# Altium integrated library Xilinx CoolRunner II.IntLib: 198 symbols (part 4 of 13)
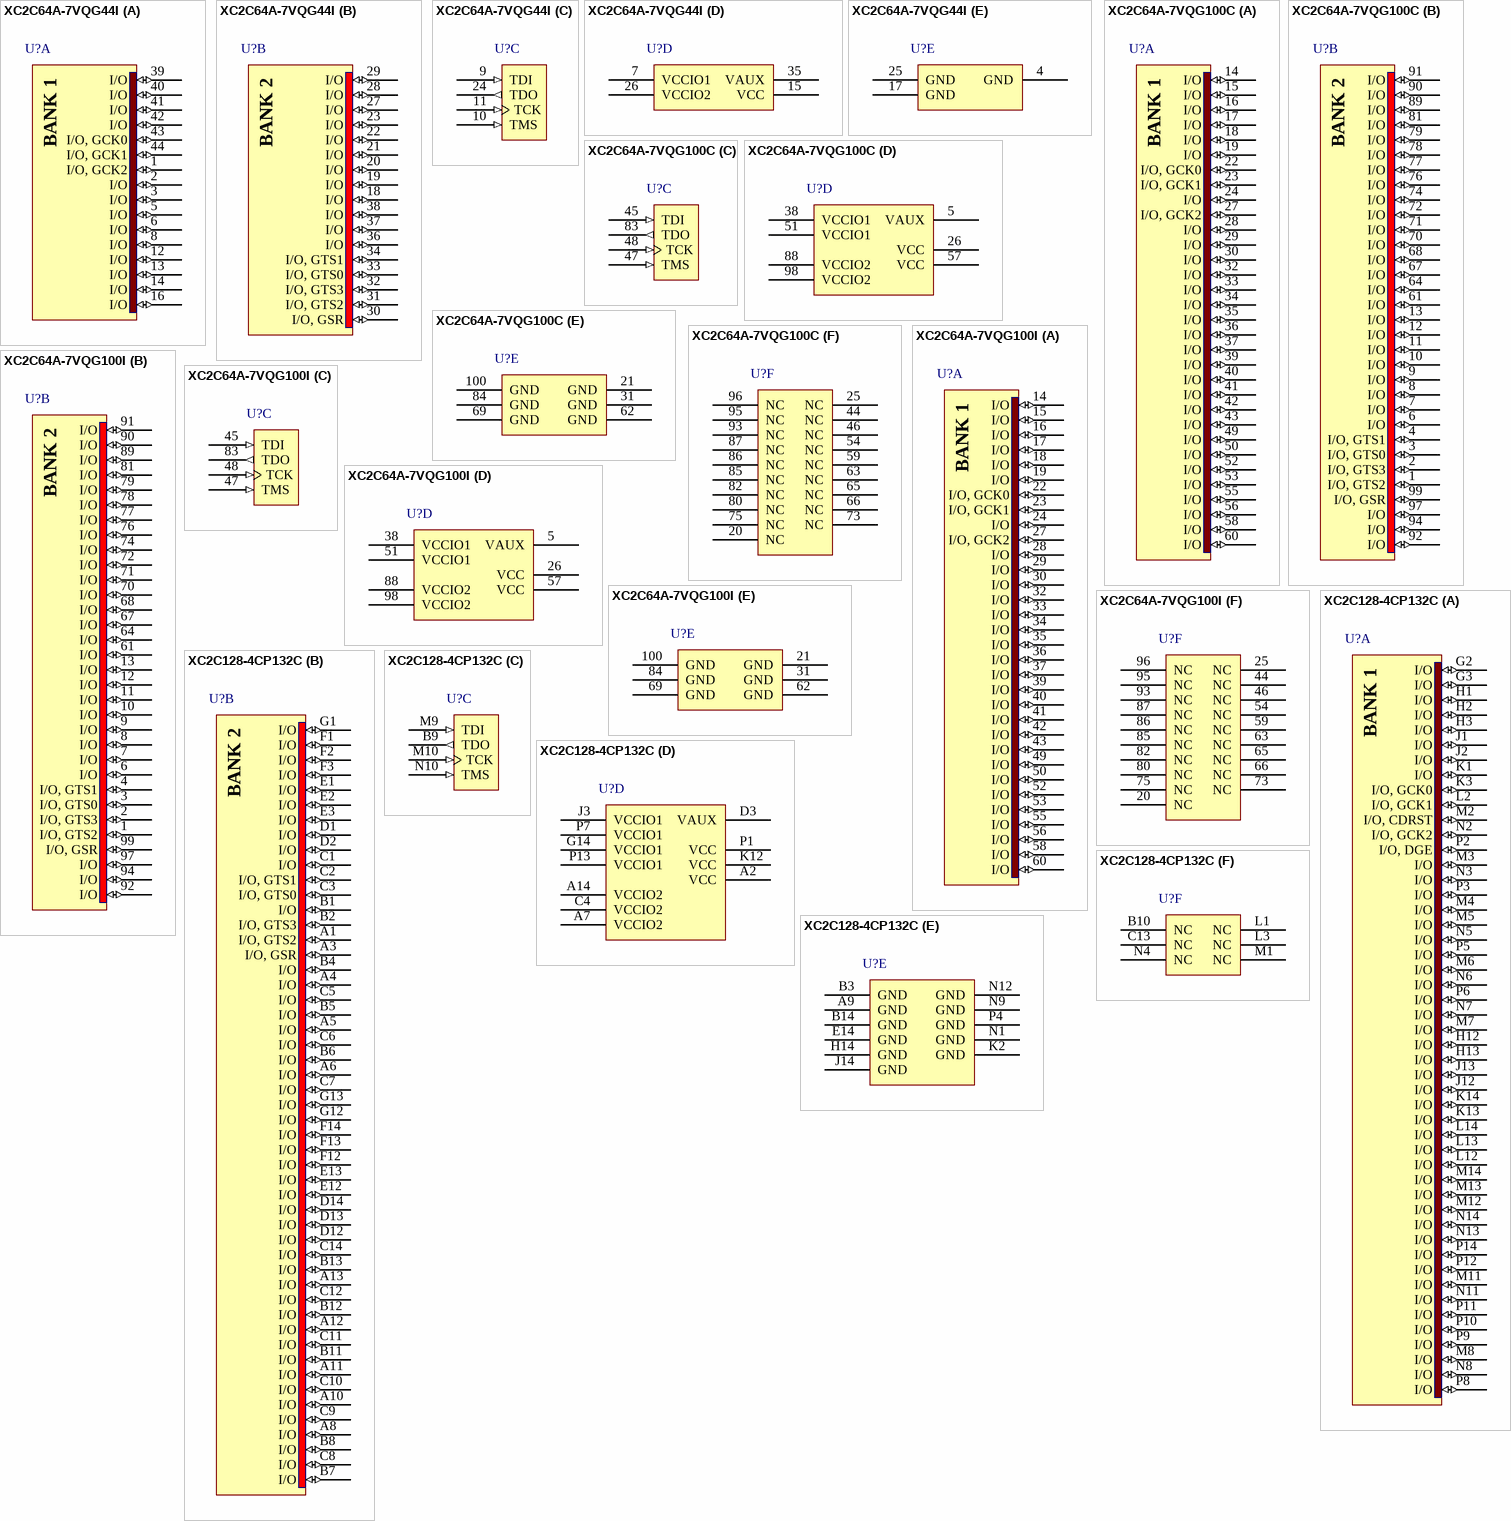
[diagram p72: symbols XC2C64A-7VQG44I to XC2C128-4CP132C]

## XC2C128-4CP132C
designator U?
CoolRunner-II, 1.8V, 128 Macrocell CPLD, 132-Ball CSP, Commercial Grade; ComponentAvailability: Not referenced in latest datasheet.; Published: 23-Sep-2002; LatestRevisionDate: 13-Apr-2006; LatestRevisionNote: IPC-7351 Footprint Added.; DatasheetVersion: ver2.5, Oct-2004; PackageVersion: ver1.2, Jun-2004; PackageReference: CP132; Publisher: Altium Limited; PackageDescription: 132-Ball Chip Scale Ball Grid Array 0.5 mm Pitch (CP132); ComponentLink1Description: Manufacturer Link; ComponentLink1URL: http://www.xilinx.com/products/silicon_solutions/cplds/coolrunner_series/coolrunner_ii_cplds/overview.htm; ComponentLink2Description: Datasheet; ComponentLink2URL: http://direct.xilinx.com/bvdocs/publications/ds093.pdf
footprint CP132 (BGA, 132-Leads, Body 8x8mm, Pitch 0.5mm)
3D model XC2C128-CP132 (132-Ball Chip Scale Ball Grid Array 0.5 mm Pitch (CP132))
signal-integrity model XC2C128_CP132 (CoolRunner-II)
part A pins: G2 I/O (io), G3 I/O (io), H1 I/O (io), H2 I/O (io), H3 I/O (io), H12 I/O (io), H13 I/O (io), J1 I/O (io), J2 I/O (io), J12 I/O (io), J13 I/O (io), K1 I/O (io), K3 I/O, GCK0 (io), K13 I/O (io), K14 I/O (io), L2 I/O, GCK1 (io), L12 I/O (io), L13 I/O (io), L14 I/O (io), M2 I/O, CDRST (io), M3 I/O (io), M4 I/O (io), M5 I/O (io), M6 I/O (io), M7 I/O (io), M8 I/O (io), M11 I/O (io), M12 I/O (io), M13 I/O (io), M14 I/O (io), N2 I/O, GCK2 (io), N3 I/O (io), N5 I/O (io), N6 I/O (io), N7 I/O (io), N8 I/O (io), N11 I/O (io), N13 I/O (io), N14 I/O (io), P2 I/O, DGE (io), P3 I/O (io), P5 I/O (io), P6 I/O (io), P8 I/O (io), P9 I/O (io), P10 I/O (io), P11 I/O (io), P12 I/O (io), P14 I/O (io)
part B pins: A1 I/O, GTS2 (io), A3 I/O, GSR (io), A4 I/O (io), A5 I/O (io), A6 I/O (io), A8 I/O (io), A10 I/O (io), A11 I/O (io), A12 I/O (io), A13 I/O (io), B1 I/O (io), B2 I/O, GTS3 (io), B4 I/O (io), B5 I/O (io), B6 I/O (io), B7 I/O (io), B8 I/O (io), B11 I/O (io), B12 I/O (io), B13 I/O (io), C1 I/O (io), C2 I/O, GTS1 (io), C3 I/O, GTS0 (io), C5 I/O (io), C6 I/O (io), C7 I/O (io), C8 I/O (io), C9 I/O (io), C10 I/O (io), C11 I/O (io), C12 I/O (io), C14 I/O (io), D1 I/O (io), D2 I/O (io), D12 I/O (io), D13 I/O (io), D14 I/O (io), E1 I/O (io), E2 I/O (io), E3 I/O (io), E12 I/O (io), E13 I/O (io), F1 I/O (io), F2 I/O (io), F3 I/O (io), F12 I/O (io), F13 I/O (io), F14 I/O (io), G1 I/O (io), G12 I/O (io), G13 I/O (io)
part C pins: B9 TDO (out), M9 TDI (in), M10 TCK (in), N10 TMS (in)
part D pins: A2 VCC (power), A7 VCCIO2 (power), A14 VCCIO2 (power), C4 VCCIO2 (power), D3 VAUX (power), G14 VCCIO1 (power), J3 VCCIO1 (power), K12 VCC (power), P1 VCC (power), P7 VCCIO1 (power), P13 VCCIO1 (power)
part E pins: A9 GND (power), B3 GND (power), B14 GND (power), E14 GND (power), H14 GND (power), J14 GND (power), K2 GND (power), N1 GND (power), N9 GND (power), N12 GND (power), P4 GND (power)
part F pins: B10 NC, C13 NC, L1 NC, L3 NC, M1 NC, N4 NC
part A text: BANK 1
part B text: BANK 2

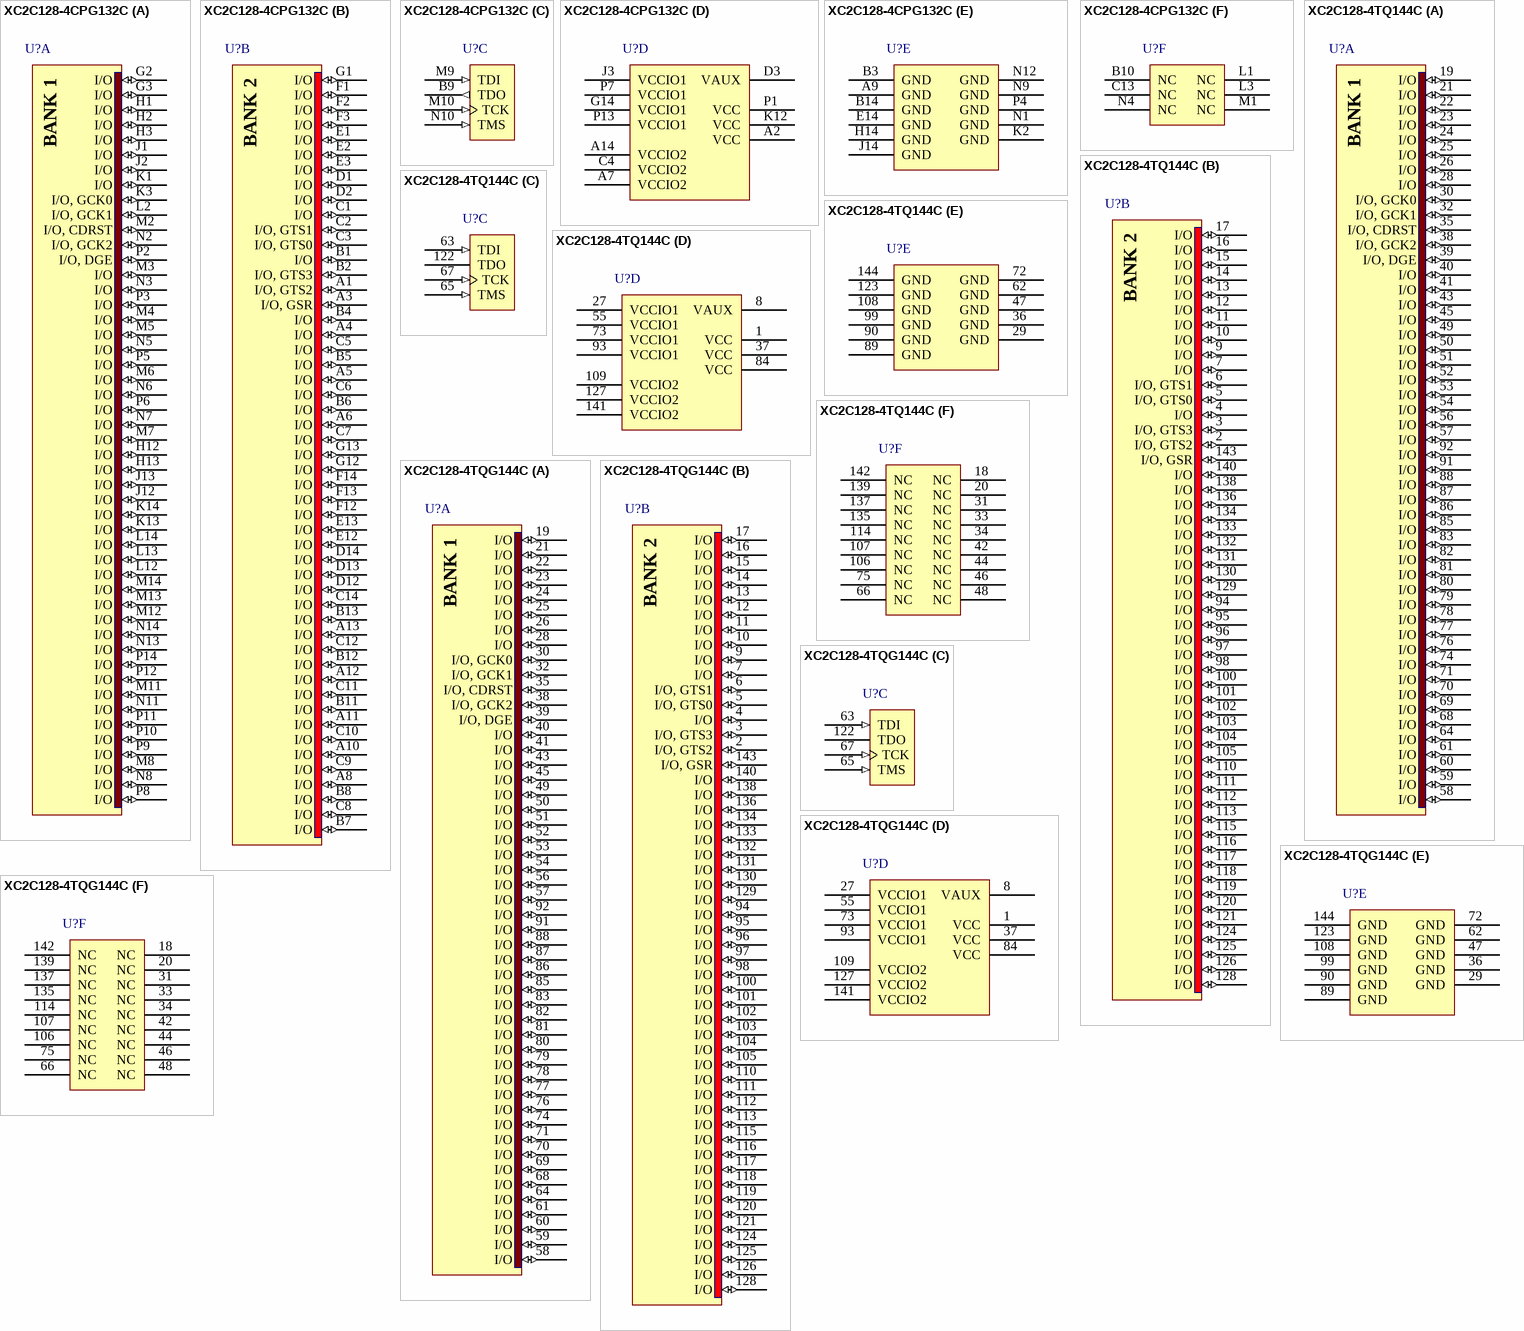
[diagram p12: symbols XC2C128-4CPG132C to XC2C128-4TQG144C]

## XC2C128-4CPG132C
designator U?
CoolRunner-II, 1.8V, 128 Macrocell CPLD, 132-Ball CSP, Pb-Free, Commercial Grade; ComponentAvailability: Not referenced in latest datasheet.; Published: 4-Mar-2005; LatestRevisionDate: 13-Apr-2006; LatestRevisionNote: IPC-7351 Footprint Added.; DatasheetVersion: ver2.5, Oct-2004; PackageVersion: ver1.2, Jun-2004; PackageReference: CPG132; Publisher: Altium Limited; PackageDescription: 132-Ball Chip Scale Ball Grid Array 0.5 mm Pitch (CPG132) - Pb-Free; ComponentLink1Description: Manufacturer Link; ComponentLink1URL: http://www.xilinx.com/products/silicon_solutions/cplds/coolrunner_series/coolrunner_ii_cplds/overview.htm; ComponentLink2Description: Datasheet; ComponentLink2URL: http://direct.xilinx.com/bvdocs/publications/ds093.pdf
footprint CPG132 (BGA, 132-Leads, Body 8x8mm, Pitch 0.5mm)
3D model XC2C128-CP132 (132-Ball Chip Scale Ball Grid Array 0.5 mm Pitch (CPG132) - Pb-Free)
signal-integrity model XC2C128_CP132 (CoolRunner-II)
part A pins: G2 I/O (io), G3 I/O (io), H1 I/O (io), H2 I/O (io), H3 I/O (io), H12 I/O (io), H13 I/O (io), J1 I/O (io), J2 I/O (io), J12 I/O (io), J13 I/O (io), K1 I/O (io), K3 I/O, GCK0 (io), K13 I/O (io), K14 I/O (io), L2 I/O, GCK1 (io), L12 I/O (io), L13 I/O (io), L14 I/O (io), M2 I/O, CDRST (io), M3 I/O (io), M4 I/O (io), M5 I/O (io), M6 I/O (io), M7 I/O (io), M8 I/O (io), M11 I/O (io), M12 I/O (io), M13 I/O (io), M14 I/O (io), N2 I/O, GCK2 (io), N3 I/O (io), N5 I/O (io), N6 I/O (io), N7 I/O (io), N8 I/O (io), N11 I/O (io), N13 I/O (io), N14 I/O (io), P2 I/O, DGE (io), P3 I/O (io), P5 I/O (io), P6 I/O (io), P8 I/O (io), P9 I/O (io), P10 I/O (io), P11 I/O (io), P12 I/O (io), P14 I/O (io)
part B pins: A1 I/O, GTS2 (io), A3 I/O, GSR (io), A4 I/O (io), A5 I/O (io), A6 I/O (io), A8 I/O (io), A10 I/O (io), A11 I/O (io), A12 I/O (io), A13 I/O (io), B1 I/O (io), B2 I/O, GTS3 (io), B4 I/O (io), B5 I/O (io), B6 I/O (io), B7 I/O (io), B8 I/O (io), B11 I/O (io), B12 I/O (io), B13 I/O (io), C1 I/O (io), C2 I/O, GTS1 (io), C3 I/O, GTS0 (io), C5 I/O (io), C6 I/O (io), C7 I/O (io), C8 I/O (io), C9 I/O (io), C10 I/O (io), C11 I/O (io), C12 I/O (io), C14 I/O (io), D1 I/O (io), D2 I/O (io), D12 I/O (io), D13 I/O (io), D14 I/O (io), E1 I/O (io), E2 I/O (io), E3 I/O (io), E12 I/O (io), E13 I/O (io), F1 I/O (io), F2 I/O (io), F3 I/O (io), F12 I/O (io), F13 I/O (io), F14 I/O (io), G1 I/O (io), G12 I/O (io), G13 I/O (io)
part C pins: B9 TDO (out), M9 TDI (in), M10 TCK (in), N10 TMS (in)
part D pins: A2 VCC (power), A7 VCCIO2 (power), A14 VCCIO2 (power), C4 VCCIO2 (power), D3 VAUX (power), G14 VCCIO1 (power), J3 VCCIO1 (power), K12 VCC (power), P1 VCC (power), P7 VCCIO1 (power), P13 VCCIO1 (power)
part E pins: A9 GND (power), B3 GND (power), B14 GND (power), E14 GND (power), H14 GND (power), J14 GND (power), K2 GND (power), N1 GND (power), N9 GND (power), N12 GND (power), P4 GND (power)
part F pins: B10 NC, C13 NC, L1 NC, L3 NC, M1 NC, N4 NC
part A text: BANK 1
part B text: BANK 2

## XC2C128-4TQ144C
designator U?
CoolRunner-II, 1.8V, 128 Macrocell CPLD, 144-Pin TQFP, Commercial Grade; ComponentAvailability: Not referenced in latest datasheet.; Published: 23-Sep-2002; LatestRevisionDate: 13-Apr-2006; LatestRevisionNote: IPC-7351 Footprint Added.; DatasheetVersion: ver2.5, Oct-2004; PackageVersion: ver1.2, Jun-2004; PackageReference: TQ144; Publisher: Altium Limited; PackageDescription: 144-Pin Thin Quad Flat Pack (TQ144); Code_JEDEC: MS-026-BFB; ComponentLink1Description: Manufacturer Link; ComponentLink1URL: http://www.xilinx.com/products/silicon_solutions/cplds/coolrunner_series/coolrunner_ii_cplds/overview.htm; ComponentLink2Description: Datasheet; ComponentLink2URL: http://direct.xilinx.com/bvdocs/publications/ds093.pdf
footprint TQ144_N (Thin QFP, 144-Leads, Body 20x20mm, Pitch 0.5mm, IPC Medium Density)
footprint TQ144_L (Thin QFP, 144-Leads, Body 20x20mm, Pitch 0.5mm, IPC High Density)
footprint TQ144_M (Thin QFP, 144-Leads, Body 20x20mm, Pitch 0.5mm, IPC Low Density)
3D model XC2C128-TQ144 (144-Pin Thin Quad Flat Pack (TQ144))
signal-integrity model XC2C128_TQ144 (CoolRunner-II)
part A pins: 19 I/O (io), 21 I/O (io), 22 I/O (io), 23 I/O (io), 24 I/O (io), 25 I/O (io), 26 I/O (io), 28 I/O (io), 30 I/O, GCK0 (io), 32 I/O, GCK1 (io), 35 I/O, CDRST (io), 38 I/O, GCK2 (io), 39 I/O, DGE (io), 40 I/O (io), 41 I/O (io), 43 I/O (io), 45 I/O (io), 49 I/O (io), 50 I/O (io), 51 I/O (io), 52 I/O (io), 53 I/O (io), 54 I/O (io), 56 I/O (io), 57 I/O (io), 58 I/O (io), 59 I/O (io), 60 I/O (io), 61 I/O (io), 64 I/O (io), 68 I/O (io), 69 I/O (io), 70 I/O (io), 71 I/O (io), 74 I/O (io), 76 I/O (io), 77 I/O (io), 78 I/O (io), 79 I/O (io), 80 I/O (io), 81 I/O (io), 82 I/O (io), 83 I/O (io), 85 I/O (io), 86 I/O (io), 87 I/O (io), 88 I/O (io), 91 I/O (io), 92 I/O (io)
part B pins: 2 I/O, GTS2 (io), 3 I/O, GTS3 (io), 4 I/O (io), 5 I/O, GTS0 (io), 6 I/O, GTS1 (io), 7 I/O (io), 9 I/O (io), 10 I/O (io), 11 I/O (io), 12 I/O (io), 13 I/O (io), 14 I/O (io), 15 I/O (io), 16 I/O (io), 17 I/O (io), 94 I/O (io), 95 I/O (io), 96 I/O (io), 97 I/O (io), 98 I/O (io), 100 I/O (io), 101 I/O (io), 102 I/O (io), 103 I/O (io), 104 I/O (io), 105 I/O (io), 110 I/O (io), 111 I/O (io), 112 I/O (io), 113 I/O (io), 115 I/O (io), 116 I/O (io), 117 I/O (io), 118 I/O (io), 119 I/O (io), 120 I/O (io), 121 I/O (io), 124 I/O (io), 125 I/O (io), 126 I/O (io), 128 I/O (io), 129 I/O (io), 130 I/O (io), 131 I/O (io), 132 I/O (io), 133 I/O (io), 134 I/O (io), 136 I/O (io), 138 I/O (io), 140 I/O (io), 143 I/O, GSR (io)
part C pins: 63 TDI (in), 65 TMS (in), 67 TCK (in), 122 TDO
part D pins: 1 VCC (power), 8 VAUX (power), 27 VCCIO1 (power), 37 VCC (power), 55 VCCIO1 (power), 73 VCCIO1 (power), 84 VCC (power), 93 VCCIO1 (power), 109 VCCIO2 (power), 127 VCCIO2 (power), 141 VCCIO2 (power)
part E pins: 29 GND (power), 36 GND (power), 47 GND (power), 62 GND (power), 72 GND (power), 89 GND (power), 90 GND (power), 99 GND (power), 108 GND (power), 123 GND (power), 144 GND (power)
part F pins: 18 NC, 20 NC, 31 NC, 33 NC, 34 NC, 42 NC, 44 NC, 46 NC, 48 NC, 66 NC, 75 NC, 106 NC, 107 NC, 114 NC, 135 NC, 137 NC, 139 NC, 142 NC
part A text: BANK 1
part B text: BANK 2

## XC2C128-4TQG144C
designator U?
CoolRunner-II, 1.8V, 128 Macrocell CPLD, 144-Pin TQFP, Pb-Free, Commercial Grade; ComponentAvailability: Not referenced in latest datasheet.; Published: 4-Mar-2005; LatestRevisionDate: 13-Apr-2006; LatestRevisionNote: IPC-7351 Footprint Added.; DatasheetVersion: ver2.5, Oct-2004; PackageVersion: ver1.2, Jun-2004; PackageReference: TQG144; Publisher: Altium Limited; PackageDescription: 144-Pin Thin Quad Flat Pack (TQG144) - Pb-Free; Code_JEDEC: MS-026-BFB; ComponentLink1Description: Manufacturer Link; ComponentLink1URL: http://www.xilinx.com/products/silicon_solutions/cplds/coolrunner_series/coolrunner_ii_cplds/overview.htm; ComponentLink2Description: Datasheet; ComponentLink2URL: http://direct.xilinx.com/bvdocs/publications/ds093.pdf
footprint TQG144_N (Thin QFP, 144-Leads, Body 20x20mm, Pitch 0.5mm, IPC Medium Density)
footprint TQG144_L (Thin QFP, 144-Leads, Body 20x20mm, Pitch 0.5mm, IPC High Density)
footprint TQG144_M (Thin QFP, 144-Leads, Body 20x20mm, Pitch 0.5mm, IPC Low Density)
3D model XC2C128-TQ144 (144-Pin Thin Quad Flat Pack (TQG144) - Pb-Free)
signal-integrity model XC2C128_TQ144 (CoolRunner-II)
part A pins: 19 I/O (io), 21 I/O (io), 22 I/O (io), 23 I/O (io), 24 I/O (io), 25 I/O (io), 26 I/O (io), 28 I/O (io), 30 I/O, GCK0 (io), 32 I/O, GCK1 (io), 35 I/O, CDRST (io), 38 I/O, GCK2 (io), 39 I/O, DGE (io), 40 I/O (io), 41 I/O (io), 43 I/O (io), 45 I/O (io), 49 I/O (io), 50 I/O (io), 51 I/O (io), 52 I/O (io), 53 I/O (io), 54 I/O (io), 56 I/O (io), 57 I/O (io), 58 I/O (io), 59 I/O (io), 60 I/O (io), 61 I/O (io), 64 I/O (io), 68 I/O (io), 69 I/O (io), 70 I/O (io), 71 I/O (io), 74 I/O (io), 76 I/O (io), 77 I/O (io), 78 I/O (io), 79 I/O (io), 80 I/O (io), 81 I/O (io), 82 I/O (io), 83 I/O (io), 85 I/O (io), 86 I/O (io), 87 I/O (io), 88 I/O (io), 91 I/O (io), 92 I/O (io)
part B pins: 2 I/O, GTS2 (io), 3 I/O, GTS3 (io), 4 I/O (io), 5 I/O, GTS0 (io), 6 I/O, GTS1 (io), 7 I/O (io), 9 I/O (io), 10 I/O (io), 11 I/O (io), 12 I/O (io), 13 I/O (io), 14 I/O (io), 15 I/O (io), 16 I/O (io), 17 I/O (io), 94 I/O (io), 95 I/O (io), 96 I/O (io), 97 I/O (io), 98 I/O (io), 100 I/O (io), 101 I/O (io), 102 I/O (io), 103 I/O (io), 104 I/O (io), 105 I/O (io), 110 I/O (io), 111 I/O (io), 112 I/O (io), 113 I/O (io), 115 I/O (io), 116 I/O (io), 117 I/O (io), 118 I/O (io), 119 I/O (io), 120 I/O (io), 121 I/O (io), 124 I/O (io), 125 I/O (io), 126 I/O (io), 128 I/O (io), 129 I/O (io), 130 I/O (io), 131 I/O (io), 132 I/O (io), 133 I/O (io), 134 I/O (io), 136 I/O (io), 138 I/O (io), 140 I/O (io), 143 I/O, GSR (io)
part C pins: 63 TDI (in), 65 TMS (in), 67 TCK (in), 122 TDO
part D pins: 1 VCC (power), 8 VAUX (power), 27 VCCIO1 (power), 37 VCC (power), 55 VCCIO1 (power), 73 VCCIO1 (power), 84 VCC (power), 93 VCCIO1 (power), 109 VCCIO2 (power), 127 VCCIO2 (power), 141 VCCIO2 (power)
part E pins: 29 GND (power), 36 GND (power), 47 GND (power), 62 GND (power), 72 GND (power), 89 GND (power), 90 GND (power), 99 GND (power), 108 GND (power), 123 GND (power), 144 GND (power)
part F pins: 18 NC, 20 NC, 31 NC, 33 NC, 34 NC, 42 NC, 44 NC, 46 NC, 48 NC, 66 NC, 75 NC, 106 NC, 107 NC, 114 NC, 135 NC, 137 NC, 139 NC, 142 NC
part A text: BANK 1
part B text: BANK 2

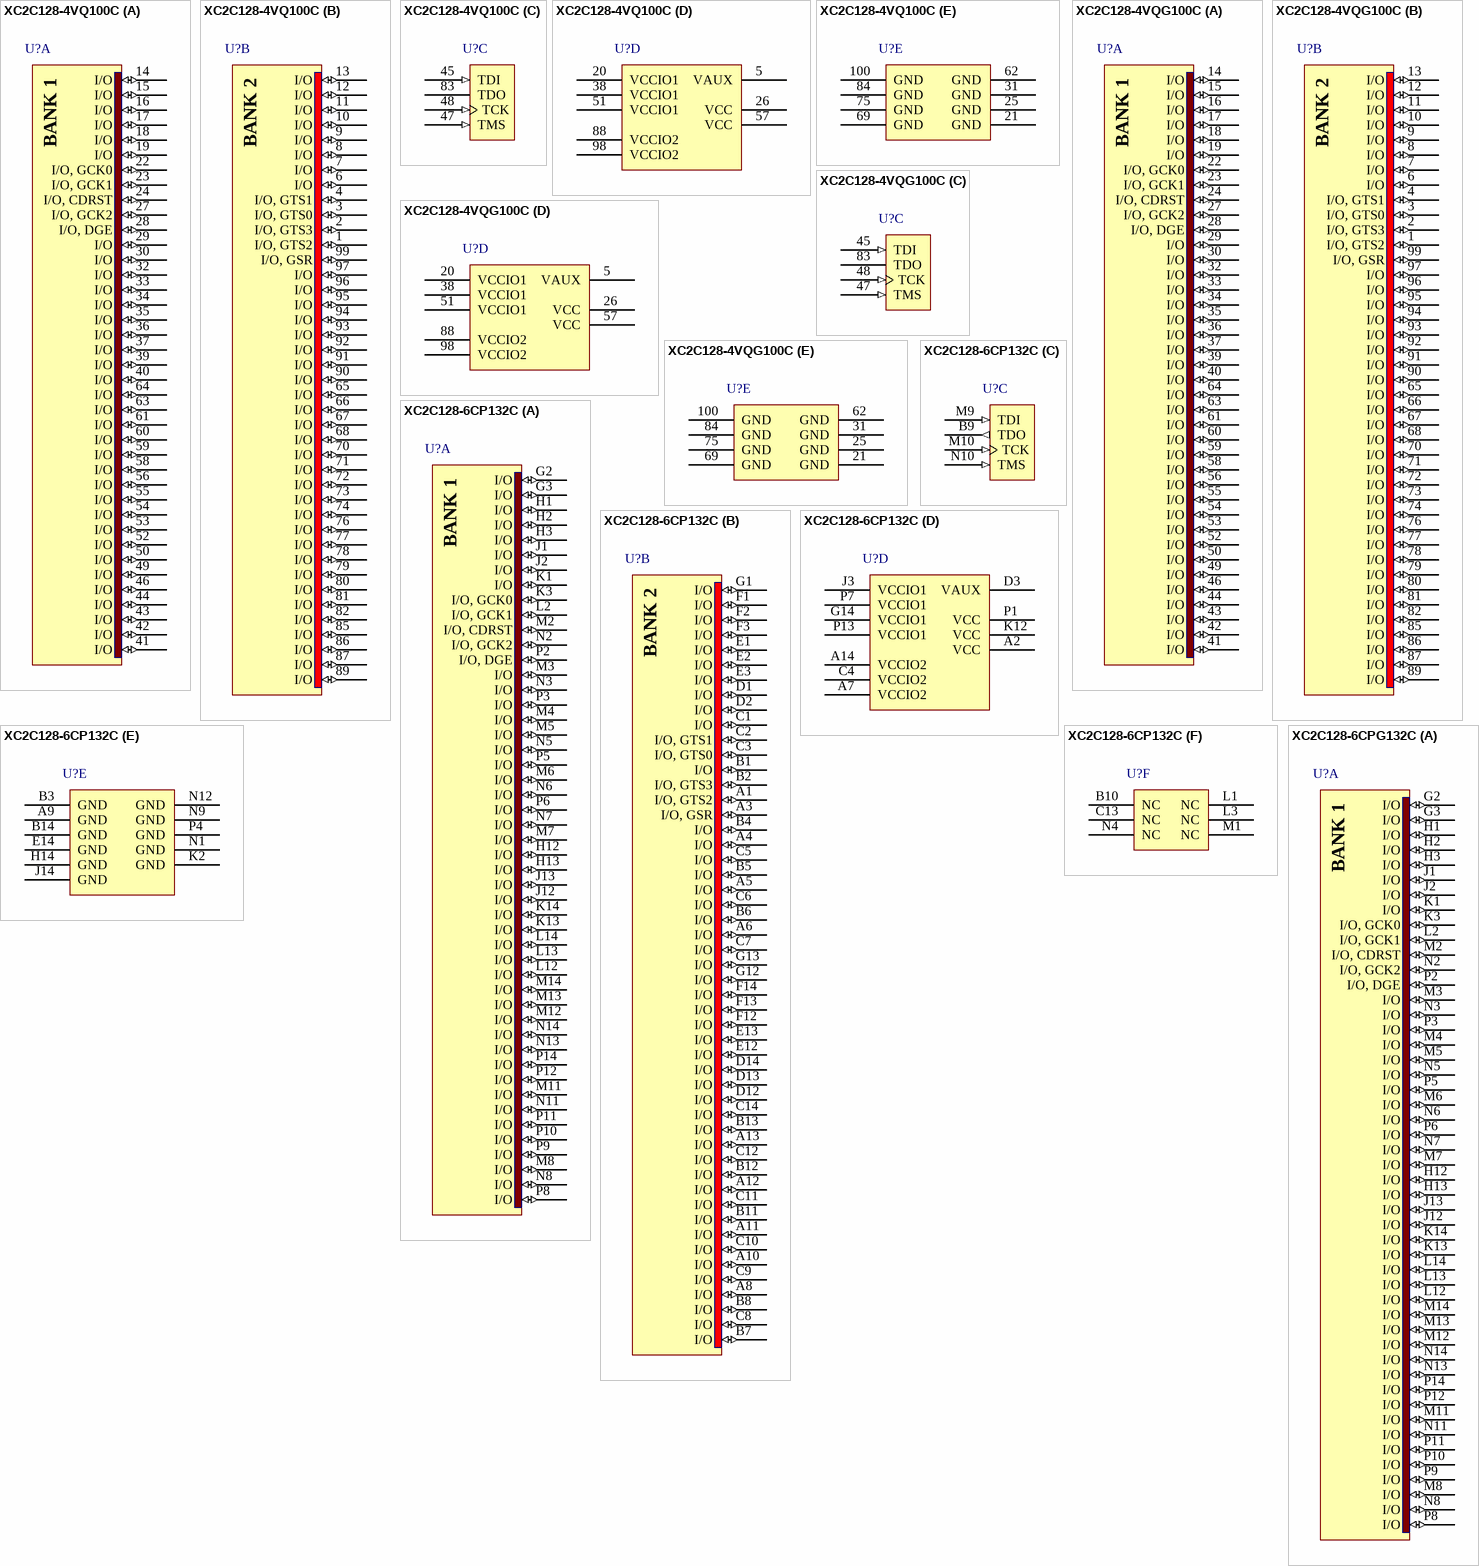
[diagram p13: symbols XC2C128-4VQ100C to XC2C128-6CPG132C]

## XC2C128-4VQ100C
designator U?
CoolRunner-II, 1.8V, 128 Macrocell CPLD, 100-Pin VQFP, Commercial Grade; ComponentAvailability: Not referenced in latest datasheet.; Published: 23-Sep-2002; LatestRevisionDate: 13-Apr-2006; LatestRevisionNote: IPC-7351 Footprint Added.; DatasheetVersion: ver2.5, Oct-2004; PackageVersion: ver1.2.1, Feb-2007; PackageReference: VQ100; Publisher: Altium Limited; PackageDescription: 100-Pin Very Thin Quad Flat Pack (VQ100); Code_JEDEC: MS-026-AED; ComponentLink1Description: Manufacturer Link; ComponentLink1URL: http://www.xilinx.com/products/silicon_solutions/cplds/coolrunner_series/coolrunner_ii_cplds/overview.htm; ComponentLink2Description: Datasheet; ComponentLink2URL: http://direct.xilinx.com/bvdocs/publications/ds093.pdf
footprint VQ100_N (Thin QFP, 100-Leads, Body 14x14mm, Pitch 0.5mm, IPC Medium Density)
footprint VQ100_L (Thin QFP, 100-Leads, Body 14x14mm, Pitch 0.5mm, IPC High Density)
footprint VQ100_M (Thin QFP, 100-Leads, Body 14x14mm, Pitch 0.5mm, IPC Low Density)
3D model XC2C128-VQ100 (100-Pin Very Thin Quad Flat Pack (VQ100))
signal-integrity model XC2C128_VQ100 (CoolRunner-II)
part A pins: 14 I/O (io), 15 I/O (io), 16 I/O (io), 17 I/O (io), 18 I/O (io), 19 I/O (io), 22 I/O, GCK0 (io), 23 I/O, GCK1 (io), 24 I/O, CDRST (io), 27 I/O, GCK2 (io), 28 I/O, DGE (io), 29 I/O (io), 30 I/O (io), 32 I/O (io), 33 I/O (io), 34 I/O (io), 35 I/O (io), 36 I/O (io), 37 I/O (io), 39 I/O (io), 40 I/O (io), 41 I/O (io), 42 I/O (io), 43 I/O (io), 44 I/O (io), 46 I/O (io), 49 I/O (io), 50 I/O (io), 52 I/O (io), 53 I/O (io), 54 I/O (io), 55 I/O (io), 56 I/O (io), 58 I/O (io), 59 I/O (io), 60 I/O (io), 61 I/O (io), 63 I/O (io), 64 I/O (io)
part B pins: 1 I/O, GTS2 (io), 2 I/O, GTS3 (io), 3 I/O, GTS0 (io), 4 I/O, GTS1 (io), 6 I/O (io), 7 I/O (io), 8 I/O (io), 9 I/O (io), 10 I/O (io), 11 I/O (io), 12 I/O (io), 13 I/O (io), 65 I/O (io), 66 I/O (io), 67 I/O (io), 68 I/O (io), 70 I/O (io), 71 I/O (io), 72 I/O (io), 73 I/O (io), 74 I/O (io), 76 I/O (io), 77 I/O (io), 78 I/O (io), 79 I/O (io), 80 I/O (io), 81 I/O (io), 82 I/O (io), 85 I/O (io), 86 I/O (io), 87 I/O (io), 89 I/O (io), 90 I/O (io), 91 I/O (io), 92 I/O (io), 93 I/O (io), 94 I/O (io), 95 I/O (io), 96 I/O (io), 97 I/O (io), 99 I/O, GSR (io)
part C pins: 45 TDI (in), 47 TMS (in), 48 TCK (in), 83 TDO
part D pins: 5 VAUX (power), 20 VCCIO1 (power), 26 VCC (power), 38 VCCIO1 (power), 51 VCCIO1 (power), 57 VCC (power), 88 VCCIO2 (power), 98 VCCIO2 (power)
part E pins: 21 GND (power), 25 GND (power), 31 GND (power), 62 GND (power), 69 GND (power), 75 GND (power), 84 GND (power), 100 GND (power)
part A text: BANK 1
part B text: BANK 2

## XC2C128-4VQG100C
designator U?
CoolRunner-II, 1.8V, 128 Macrocell CPLD, 100-Pin VQFP, Pb-Free, Commercial Grade; ComponentAvailability: Not referenced in latest datasheet.; Published: 4-Mar-2005; LatestRevisionDate: 13-Apr-2006; LatestRevisionNote: IPC-7351 Footprint Added.; DatasheetVersion: ver2.5, Oct-2004; PackageVersion: ver1.2.1, Feb-2007; PackageReference: VQG100; Publisher: Altium Limited; PackageDescription: 100-Pin Very Thin Quad Flat Pack (VQG100) - Pb-Free; Code_JEDEC: MS-026-AED; ComponentLink1Description: Manufacturer Link; ComponentLink1URL: http://www.xilinx.com/products/silicon_solutions/cplds/coolrunner_series/coolrunner_ii_cplds/overview.htm; ComponentLink2Description: Datasheet; ComponentLink2URL: http://direct.xilinx.com/bvdocs/publications/ds093.pdf
footprint VQG100_N (Thin QFP, 100-Leads, Body 14x14mm, Pitch 0.5mm, IPC Medium Density)
footprint VQG100_L (Thin QFP, 100-Leads, Body 14x14mm, Pitch 0.5mm, IPC High Density)
footprint VQG100_M (Thin QFP, 100-Leads, Body 14x14mm, Pitch 0.5mm, IPC Low Density)
3D model XC2C128-VQ100 (100-Pin Very Thin Quad Flat Pack (VQG100) - Pb-Free)
signal-integrity model XC2C128_VQ100 (CoolRunner-II)
part A pins: 14 I/O (io), 15 I/O (io), 16 I/O (io), 17 I/O (io), 18 I/O (io), 19 I/O (io), 22 I/O, GCK0 (io), 23 I/O, GCK1 (io), 24 I/O, CDRST (io), 27 I/O, GCK2 (io), 28 I/O, DGE (io), 29 I/O (io), 30 I/O (io), 32 I/O (io), 33 I/O (io), 34 I/O (io), 35 I/O (io), 36 I/O (io), 37 I/O (io), 39 I/O (io), 40 I/O (io), 41 I/O (io), 42 I/O (io), 43 I/O (io), 44 I/O (io), 46 I/O (io), 49 I/O (io), 50 I/O (io), 52 I/O (io), 53 I/O (io), 54 I/O (io), 55 I/O (io), 56 I/O (io), 58 I/O (io), 59 I/O (io), 60 I/O (io), 61 I/O (io), 63 I/O (io), 64 I/O (io)
part B pins: 1 I/O, GTS2 (io), 2 I/O, GTS3 (io), 3 I/O, GTS0 (io), 4 I/O, GTS1 (io), 6 I/O (io), 7 I/O (io), 8 I/O (io), 9 I/O (io), 10 I/O (io), 11 I/O (io), 12 I/O (io), 13 I/O (io), 65 I/O (io), 66 I/O (io), 67 I/O (io), 68 I/O (io), 70 I/O (io), 71 I/O (io), 72 I/O (io), 73 I/O (io), 74 I/O (io), 76 I/O (io), 77 I/O (io), 78 I/O (io), 79 I/O (io), 80 I/O (io), 81 I/O (io), 82 I/O (io), 85 I/O (io), 86 I/O (io), 87 I/O (io), 89 I/O (io), 90 I/O (io), 91 I/O (io), 92 I/O (io), 93 I/O (io), 94 I/O (io), 95 I/O (io), 96 I/O (io), 97 I/O (io), 99 I/O, GSR (io)
part C pins: 45 TDI (in), 47 TMS (in), 48 TCK (in), 83 TDO
part D pins: 5 VAUX (power), 20 VCCIO1 (power), 26 VCC (power), 38 VCCIO1 (power), 51 VCCIO1 (power), 57 VCC (power), 88 VCCIO2 (power), 98 VCCIO2 (power)
part E pins: 21 GND (power), 25 GND (power), 31 GND (power), 62 GND (power), 69 GND (power), 75 GND (power), 84 GND (power), 100 GND (power)
part A text: BANK 1
part B text: BANK 2

## XC2C128-6CP132C
designator U?
CoolRunner-II, 1.8V, 128 Macrocell CPLD, 132-Ball CSP, Commercial Grade; Published: 23-Sep-2002; LatestRevisionDate: 13-Apr-2006; LatestRevisionNote: IPC-7351 Footprint Added.; DatasheetVersion: ver3.2, Mar-2007; PackageVersion: ver1.2, Jun-2004; PackageReference: CP132; Publisher: Altium Limited; PackageDescription: 132-Ball Chip Scale Ball Grid Array 0.5 mm Pitch (CP132); ComponentLink1Description: Manufacturer Link; ComponentLink1URL: http://www.xilinx.com/products/silicon_solutions/cplds/coolrunner_series/coolrunner_ii_cplds/overview.htm; ComponentLink2Description: Datasheet; ComponentLink2URL: http://direct.xilinx.com/bvdocs/publications/ds093.pdf
footprint CP132 (BGA, 132-Leads, Body 8x8mm, Pitch 0.5mm)
3D model XC2C128-CP132 (132-Ball Chip Scale Ball Grid Array 0.5 mm Pitch (CP132))
signal-integrity model XC2C128_CP132 (CoolRunner-II)
part A pins: G2 I/O (io), G3 I/O (io), H1 I/O (io), H2 I/O (io), H3 I/O (io), H12 I/O (io), H13 I/O (io), J1 I/O (io), J2 I/O (io), J12 I/O (io), J13 I/O (io), K1 I/O (io), K3 I/O, GCK0 (io), K13 I/O (io), K14 I/O (io), L2 I/O, GCK1 (io), L12 I/O (io), L13 I/O (io), L14 I/O (io), M2 I/O, CDRST (io), M3 I/O (io), M4 I/O (io), M5 I/O (io), M6 I/O (io), M7 I/O (io), M8 I/O (io), M11 I/O (io), M12 I/O (io), M13 I/O (io), M14 I/O (io), N2 I/O, GCK2 (io), N3 I/O (io), N5 I/O (io), N6 I/O (io), N7 I/O (io), N8 I/O (io), N11 I/O (io), N13 I/O (io), N14 I/O (io), P2 I/O, DGE (io), P3 I/O (io), P5 I/O (io), P6 I/O (io), P8 I/O (io), P9 I/O (io), P10 I/O (io), P11 I/O (io), P12 I/O (io), P14 I/O (io)
part B pins: A1 I/O, GTS2 (io), A3 I/O, GSR (io), A4 I/O (io), A5 I/O (io), A6 I/O (io), A8 I/O (io), A10 I/O (io), A11 I/O (io), A12 I/O (io), A13 I/O (io), B1 I/O (io), B2 I/O, GTS3 (io), B4 I/O (io), B5 I/O (io), B6 I/O (io), B7 I/O (io), B8 I/O (io), B11 I/O (io), B12 I/O (io), B13 I/O (io), C1 I/O (io), C2 I/O, GTS1 (io), C3 I/O, GTS0 (io), C5 I/O (io), C6 I/O (io), C7 I/O (io), C8 I/O (io), C9 I/O (io), C10 I/O (io), C11 I/O (io), C12 I/O (io), C14 I/O (io), D1 I/O (io), D2 I/O (io), D12 I/O (io), D13 I/O (io), D14 I/O (io), E1 I/O (io), E2 I/O (io), E3 I/O (io), E12 I/O (io), E13 I/O (io), F1 I/O (io), F2 I/O (io), F3 I/O (io), F12 I/O (io), F13 I/O (io), F14 I/O (io), G1 I/O (io), G12 I/O (io), G13 I/O (io)
part C pins: B9 TDO (out), M9 TDI (in), M10 TCK (in), N10 TMS (in)
part D pins: A2 VCC (power), A7 VCCIO2 (power), A14 VCCIO2 (power), C4 VCCIO2 (power), D3 VAUX (power), G14 VCCIO1 (power), J3 VCCIO1 (power), K12 VCC (power), P1 VCC (power), P7 VCCIO1 (power), P13 VCCIO1 (power)
part E pins: A9 GND (power), B3 GND (power), B14 GND (power), E14 GND (power), H14 GND (power), J14 GND (power), K2 GND (power), N1 GND (power), N9 GND (power), N12 GND (power), P4 GND (power)
part F pins: B10 NC, C13 NC, L1 NC, L3 NC, M1 NC, N4 NC
part A text: BANK 1
part B text: BANK 2

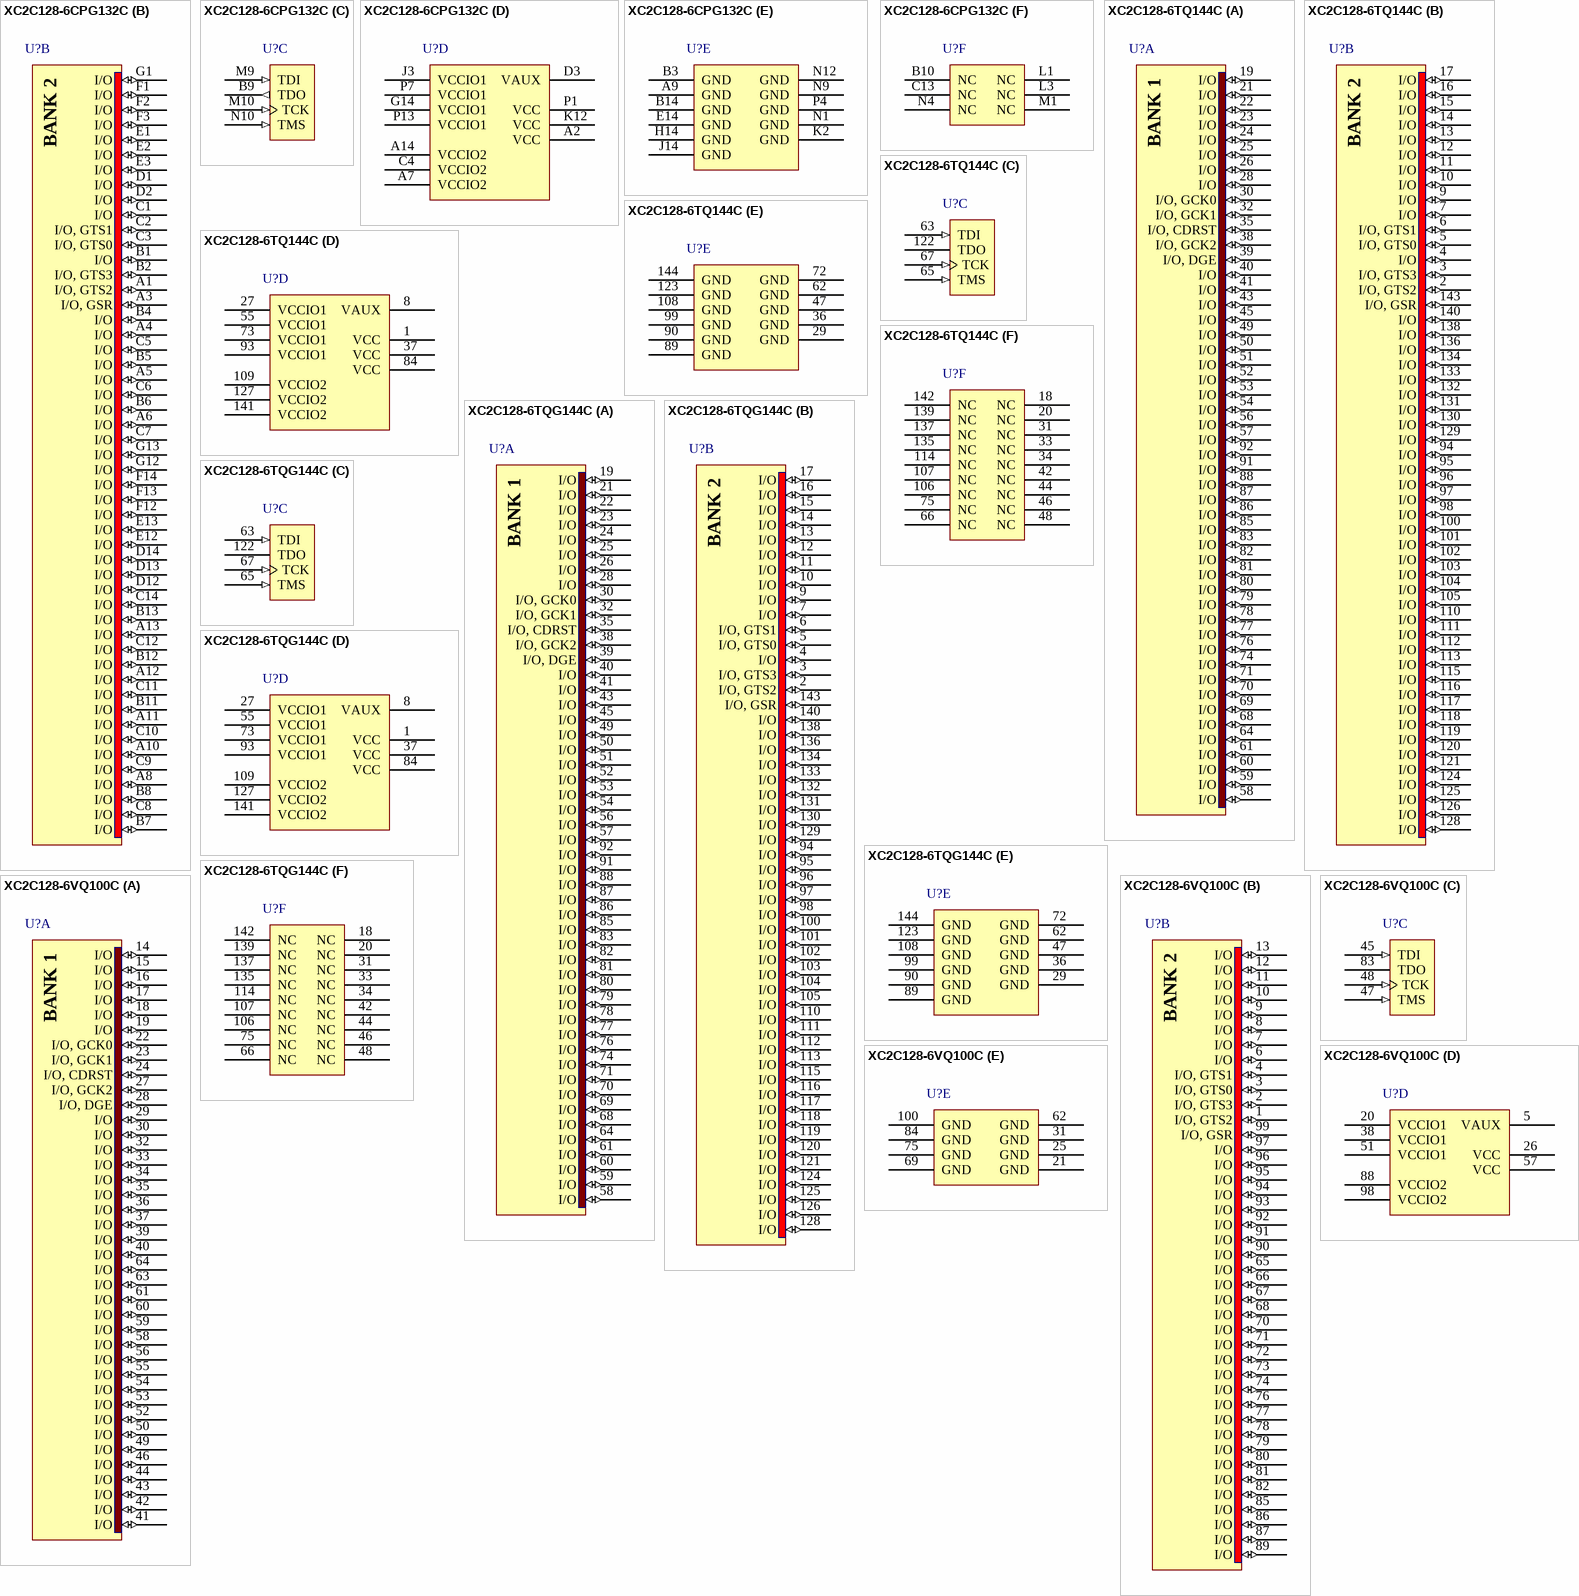
[diagram p14: symbols XC2C128-6CPG132C to XC2C128-6VQ100C]

## XC2C128-6CPG132C
designator U?
CoolRunner-II, 1.8V, 128 Macrocell CPLD, 132-Ball CSP, Pb-Free, Commercial Grade; Published: 4-Mar-2005; LatestRevisionDate: 13-Apr-2006; LatestRevisionNote: IPC-7351 Footprint Added.; DatasheetVersion: ver3.2, Mar-2007; PackageVersion: ver1.2, Jun-2004; PackageReference: CPG132; Publisher: Altium Limited; PackageDescription: 132-Ball Chip Scale Ball Grid Array 0.5 mm Pitch (CPG132) - Pb-Free; ComponentLink1Description: Manufacturer Link; ComponentLink1URL: http://www.xilinx.com/products/silicon_solutions/cplds/coolrunner_series/coolrunner_ii_cplds/overview.htm; ComponentLink2Description: Datasheet; ComponentLink2URL: http://direct.xilinx.com/bvdocs/publications/ds093.pdf
footprint CPG132 (BGA, 132-Leads, Body 8x8mm, Pitch 0.5mm)
3D model XC2C128-CP132 (132-Ball Chip Scale Ball Grid Array 0.5 mm Pitch (CPG132) - Pb-Free)
signal-integrity model XC2C128_CP132 (CoolRunner-II)
part A pins: G2 I/O (io), G3 I/O (io), H1 I/O (io), H2 I/O (io), H3 I/O (io), H12 I/O (io), H13 I/O (io), J1 I/O (io), J2 I/O (io), J12 I/O (io), J13 I/O (io), K1 I/O (io), K3 I/O, GCK0 (io), K13 I/O (io), K14 I/O (io), L2 I/O, GCK1 (io), L12 I/O (io), L13 I/O (io), L14 I/O (io), M2 I/O, CDRST (io), M3 I/O (io), M4 I/O (io), M5 I/O (io), M6 I/O (io), M7 I/O (io), M8 I/O (io), M11 I/O (io), M12 I/O (io), M13 I/O (io), M14 I/O (io), N2 I/O, GCK2 (io), N3 I/O (io), N5 I/O (io), N6 I/O (io), N7 I/O (io), N8 I/O (io), N11 I/O (io), N13 I/O (io), N14 I/O (io), P2 I/O, DGE (io), P3 I/O (io), P5 I/O (io), P6 I/O (io), P8 I/O (io), P9 I/O (io), P10 I/O (io), P11 I/O (io), P12 I/O (io), P14 I/O (io)
part B pins: A1 I/O, GTS2 (io), A3 I/O, GSR (io), A4 I/O (io), A5 I/O (io), A6 I/O (io), A8 I/O (io), A10 I/O (io), A11 I/O (io), A12 I/O (io), A13 I/O (io), B1 I/O (io), B2 I/O, GTS3 (io), B4 I/O (io), B5 I/O (io), B6 I/O (io), B7 I/O (io), B8 I/O (io), B11 I/O (io), B12 I/O (io), B13 I/O (io), C1 I/O (io), C2 I/O, GTS1 (io), C3 I/O, GTS0 (io), C5 I/O (io), C6 I/O (io), C7 I/O (io), C8 I/O (io), C9 I/O (io), C10 I/O (io), C11 I/O (io), C12 I/O (io), C14 I/O (io), D1 I/O (io), D2 I/O (io), D12 I/O (io), D13 I/O (io), D14 I/O (io), E1 I/O (io), E2 I/O (io), E3 I/O (io), E12 I/O (io), E13 I/O (io), F1 I/O (io), F2 I/O (io), F3 I/O (io), F12 I/O (io), F13 I/O (io), F14 I/O (io), G1 I/O (io), G12 I/O (io), G13 I/O (io)
part C pins: B9 TDO (out), M9 TDI (in), M10 TCK (in), N10 TMS (in)
part D pins: A2 VCC (power), A7 VCCIO2 (power), A14 VCCIO2 (power), C4 VCCIO2 (power), D3 VAUX (power), G14 VCCIO1 (power), J3 VCCIO1 (power), K12 VCC (power), P1 VCC (power), P7 VCCIO1 (power), P13 VCCIO1 (power)
part E pins: A9 GND (power), B3 GND (power), B14 GND (power), E14 GND (power), H14 GND (power), J14 GND (power), K2 GND (power), N1 GND (power), N9 GND (power), N12 GND (power), P4 GND (power)
part F pins: B10 NC, C13 NC, L1 NC, L3 NC, M1 NC, N4 NC
part A text: BANK 1
part B text: BANK 2

## XC2C128-6TQ144C
designator U?
CoolRunner-II, 1.8V, 128 Macrocell CPLD, 144-Pin TQFP, Commercial Grade; Published: 23-Sep-2002; LatestRevisionDate: 13-Apr-2006; LatestRevisionNote: IPC-7351 Footprint Added.; DatasheetVersion: ver3.2, Mar-2007; PackageVersion: ver1.2, Jun-2004; PackageReference: TQ144; Publisher: Altium Limited; PackageDescription: 144-Pin Thin Quad Flat Pack (TQ144); Code_JEDEC: MS-026-BFB; ComponentLink1Description: Manufacturer Link; ComponentLink1URL: http://www.xilinx.com/products/silicon_solutions/cplds/coolrunner_series/coolrunner_ii_cplds/overview.htm; ComponentLink2Description: Datasheet; ComponentLink2URL: http://direct.xilinx.com/bvdocs/publications/ds093.pdf
footprint TQ144_N (Thin QFP, 144-Leads, Body 20x20mm, Pitch 0.5mm, IPC Medium Density)
footprint TQ144_L (Thin QFP, 144-Leads, Body 20x20mm, Pitch 0.5mm, IPC High Density)
footprint TQ144_M (Thin QFP, 144-Leads, Body 20x20mm, Pitch 0.5mm, IPC Low Density)
3D model XC2C128-TQ144 (144-Pin Thin Quad Flat Pack (TQ144))
signal-integrity model XC2C128_TQ144 (CoolRunner-II)
part A pins: 19 I/O (io), 21 I/O (io), 22 I/O (io), 23 I/O (io), 24 I/O (io), 25 I/O (io), 26 I/O (io), 28 I/O (io), 30 I/O, GCK0 (io), 32 I/O, GCK1 (io), 35 I/O, CDRST (io), 38 I/O, GCK2 (io), 39 I/O, DGE (io), 40 I/O (io), 41 I/O (io), 43 I/O (io), 45 I/O (io), 49 I/O (io), 50 I/O (io), 51 I/O (io), 52 I/O (io), 53 I/O (io), 54 I/O (io), 56 I/O (io), 57 I/O (io), 58 I/O (io), 59 I/O (io), 60 I/O (io), 61 I/O (io), 64 I/O (io), 68 I/O (io), 69 I/O (io), 70 I/O (io), 71 I/O (io), 74 I/O (io), 76 I/O (io), 77 I/O (io), 78 I/O (io), 79 I/O (io), 80 I/O (io), 81 I/O (io), 82 I/O (io), 83 I/O (io), 85 I/O (io), 86 I/O (io), 87 I/O (io), 88 I/O (io), 91 I/O (io), 92 I/O (io)
part B pins: 2 I/O, GTS2 (io), 3 I/O, GTS3 (io), 4 I/O (io), 5 I/O, GTS0 (io), 6 I/O, GTS1 (io), 7 I/O (io), 9 I/O (io), 10 I/O (io), 11 I/O (io), 12 I/O (io), 13 I/O (io), 14 I/O (io), 15 I/O (io), 16 I/O (io), 17 I/O (io), 94 I/O (io), 95 I/O (io), 96 I/O (io), 97 I/O (io), 98 I/O (io), 100 I/O (io), 101 I/O (io), 102 I/O (io), 103 I/O (io), 104 I/O (io), 105 I/O (io), 110 I/O (io), 111 I/O (io), 112 I/O (io), 113 I/O (io), 115 I/O (io), 116 I/O (io), 117 I/O (io), 118 I/O (io), 119 I/O (io), 120 I/O (io), 121 I/O (io), 124 I/O (io), 125 I/O (io), 126 I/O (io), 128 I/O (io), 129 I/O (io), 130 I/O (io), 131 I/O (io), 132 I/O (io), 133 I/O (io), 134 I/O (io), 136 I/O (io), 138 I/O (io), 140 I/O (io), 143 I/O, GSR (io)
part C pins: 63 TDI (in), 65 TMS (in), 67 TCK (in), 122 TDO
part D pins: 1 VCC (power), 8 VAUX (power), 27 VCCIO1 (power), 37 VCC (power), 55 VCCIO1 (power), 73 VCCIO1 (power), 84 VCC (power), 93 VCCIO1 (power), 109 VCCIO2 (power), 127 VCCIO2 (power), 141 VCCIO2 (power)
part E pins: 29 GND (power), 36 GND (power), 47 GND (power), 62 GND (power), 72 GND (power), 89 GND (power), 90 GND (power), 99 GND (power), 108 GND (power), 123 GND (power), 144 GND (power)
part F pins: 18 NC, 20 NC, 31 NC, 33 NC, 34 NC, 42 NC, 44 NC, 46 NC, 48 NC, 66 NC, 75 NC, 106 NC, 107 NC, 114 NC, 135 NC, 137 NC, 139 NC, 142 NC
part A text: BANK 1
part B text: BANK 2

## XC2C128-6TQG144C
designator U?
CoolRunner-II, 1.8V, 128 Macrocell CPLD, 144-Pin TQFP, Pb-Free, Commercial Grade; Published: 4-Mar-2005; LatestRevisionDate: 13-Apr-2006; LatestRevisionNote: IPC-7351 Footprint Added.; DatasheetVersion: ver3.2, Mar-2007; PackageVersion: ver1.2, Jun-2004; PackageReference: TQG144; Publisher: Altium Limited; PackageDescription: 144-Pin Thin Quad Flat Pack (TQG144) - Pb-Free; Code_JEDEC: MS-026-BFB; ComponentLink1Description: Manufacturer Link; ComponentLink1URL: http://www.xilinx.com/products/silicon_solutions/cplds/coolrunner_series/coolrunner_ii_cplds/overview.htm; ComponentLink2Description: Datasheet; ComponentLink2URL: http://direct.xilinx.com/bvdocs/publications/ds093.pdf
footprint TQG144_N (Thin QFP, 144-Leads, Body 20x20mm, Pitch 0.5mm, IPC Medium Density)
footprint TQG144_L (Thin QFP, 144-Leads, Body 20x20mm, Pitch 0.5mm, IPC High Density)
footprint TQG144_M (Thin QFP, 144-Leads, Body 20x20mm, Pitch 0.5mm, IPC Low Density)
3D model XC2C128-TQ144 (144-Pin Thin Quad Flat Pack (TQG144) - Pb-Free)
signal-integrity model XC2C128_TQ144 (CoolRunner-II)
part A pins: 19 I/O (io), 21 I/O (io), 22 I/O (io), 23 I/O (io), 24 I/O (io), 25 I/O (io), 26 I/O (io), 28 I/O (io), 30 I/O, GCK0 (io), 32 I/O, GCK1 (io), 35 I/O, CDRST (io), 38 I/O, GCK2 (io), 39 I/O, DGE (io), 40 I/O (io), 41 I/O (io), 43 I/O (io), 45 I/O (io), 49 I/O (io), 50 I/O (io), 51 I/O (io), 52 I/O (io), 53 I/O (io), 54 I/O (io), 56 I/O (io), 57 I/O (io), 58 I/O (io), 59 I/O (io), 60 I/O (io), 61 I/O (io), 64 I/O (io), 68 I/O (io), 69 I/O (io), 70 I/O (io), 71 I/O (io), 74 I/O (io), 76 I/O (io), 77 I/O (io), 78 I/O (io), 79 I/O (io), 80 I/O (io), 81 I/O (io), 82 I/O (io), 83 I/O (io), 85 I/O (io), 86 I/O (io), 87 I/O (io), 88 I/O (io), 91 I/O (io), 92 I/O (io)
part B pins: 2 I/O, GTS2 (io), 3 I/O, GTS3 (io), 4 I/O (io), 5 I/O, GTS0 (io), 6 I/O, GTS1 (io), 7 I/O (io), 9 I/O (io), 10 I/O (io), 11 I/O (io), 12 I/O (io), 13 I/O (io), 14 I/O (io), 15 I/O (io), 16 I/O (io), 17 I/O (io), 94 I/O (io), 95 I/O (io), 96 I/O (io), 97 I/O (io), 98 I/O (io), 100 I/O (io), 101 I/O (io), 102 I/O (io), 103 I/O (io), 104 I/O (io), 105 I/O (io), 110 I/O (io), 111 I/O (io), 112 I/O (io), 113 I/O (io), 115 I/O (io), 116 I/O (io), 117 I/O (io), 118 I/O (io), 119 I/O (io), 120 I/O (io), 121 I/O (io), 124 I/O (io), 125 I/O (io), 126 I/O (io), 128 I/O (io), 129 I/O (io), 130 I/O (io), 131 I/O (io), 132 I/O (io), 133 I/O (io), 134 I/O (io), 136 I/O (io), 138 I/O (io), 140 I/O (io), 143 I/O, GSR (io)
part C pins: 63 TDI (in), 65 TMS (in), 67 TCK (in), 122 TDO
part D pins: 1 VCC (power), 8 VAUX (power), 27 VCCIO1 (power), 37 VCC (power), 55 VCCIO1 (power), 73 VCCIO1 (power), 84 VCC (power), 93 VCCIO1 (power), 109 VCCIO2 (power), 127 VCCIO2 (power), 141 VCCIO2 (power)
part E pins: 29 GND (power), 36 GND (power), 47 GND (power), 62 GND (power), 72 GND (power), 89 GND (power), 90 GND (power), 99 GND (power), 108 GND (power), 123 GND (power), 144 GND (power)
part F pins: 18 NC, 20 NC, 31 NC, 33 NC, 34 NC, 42 NC, 44 NC, 46 NC, 48 NC, 66 NC, 75 NC, 106 NC, 107 NC, 114 NC, 135 NC, 137 NC, 139 NC, 142 NC
part A text: BANK 1
part B text: BANK 2

## XC2C128-6VQ100C
designator U?
CoolRunner-II, 1.8V, 128 Macrocell CPLD, 100-Pin VQFP, Commercial Grade; ComponentAvailability: Not referenced in latest datasheet.; Published: 23-Sep-2002; LatestRevisionDate: 13-Apr-2006; LatestRevisionNote: IPC-7351 Footprint Added.; DatasheetVersion: ver2.5, Oct-2004; PackageVersion: ver1.2.1, Feb-2007; PackageReference: VQ100; Publisher: Altium Limited; PackageDescription: 100-Pin Very Thin Quad Flat Pack (VQ100); Code_JEDEC: MS-026-AED; ComponentLink1Description: Manufacturer Link; ComponentLink1URL: http://www.xilinx.com/products/silicon_solutions/cplds/coolrunner_series/coolrunner_ii_cplds/overview.htm; ComponentLink2Description: Datasheet; ComponentLink2URL: http://direct.xilinx.com/bvdocs/publications/ds093.pdf
footprint VQ100_N (Thin QFP, 100-Leads, Body 14x14mm, Pitch 0.5mm, IPC Medium Density)
footprint VQ100_L (Thin QFP, 100-Leads, Body 14x14mm, Pitch 0.5mm, IPC High Density)
footprint VQ100_M (Thin QFP, 100-Leads, Body 14x14mm, Pitch 0.5mm, IPC Low Density)
3D model XC2C128-VQ100 (100-Pin Very Thin Quad Flat Pack (VQ100))
signal-integrity model XC2C128_VQ100 (CoolRunner-II)
part A pins: 14 I/O (io), 15 I/O (io), 16 I/O (io), 17 I/O (io), 18 I/O (io), 19 I/O (io), 22 I/O, GCK0 (io), 23 I/O, GCK1 (io), 24 I/O, CDRST (io), 27 I/O, GCK2 (io), 28 I/O, DGE (io), 29 I/O (io), 30 I/O (io), 32 I/O (io), 33 I/O (io), 34 I/O (io), 35 I/O (io), 36 I/O (io), 37 I/O (io), 39 I/O (io), 40 I/O (io), 41 I/O (io), 42 I/O (io), 43 I/O (io), 44 I/O (io), 46 I/O (io), 49 I/O (io), 50 I/O (io), 52 I/O (io), 53 I/O (io), 54 I/O (io), 55 I/O (io), 56 I/O (io), 58 I/O (io), 59 I/O (io), 60 I/O (io), 61 I/O (io), 63 I/O (io), 64 I/O (io)
part B pins: 1 I/O, GTS2 (io), 2 I/O, GTS3 (io), 3 I/O, GTS0 (io), 4 I/O, GTS1 (io), 6 I/O (io), 7 I/O (io), 8 I/O (io), 9 I/O (io), 10 I/O (io), 11 I/O (io), 12 I/O (io), 13 I/O (io), 65 I/O (io), 66 I/O (io), 67 I/O (io), 68 I/O (io), 70 I/O (io), 71 I/O (io), 72 I/O (io), 73 I/O (io), 74 I/O (io), 76 I/O (io), 77 I/O (io), 78 I/O (io), 79 I/O (io), 80 I/O (io), 81 I/O (io), 82 I/O (io), 85 I/O (io), 86 I/O (io), 87 I/O (io), 89 I/O (io), 90 I/O (io), 91 I/O (io), 92 I/O (io), 93 I/O (io), 94 I/O (io), 95 I/O (io), 96 I/O (io), 97 I/O (io), 99 I/O, GSR (io)
part C pins: 45 TDI (in), 47 TMS (in), 48 TCK (in), 83 TDO
part D pins: 5 VAUX (power), 20 VCCIO1 (power), 26 VCC (power), 38 VCCIO1 (power), 51 VCCIO1 (power), 57 VCC (power), 88 VCCIO2 (power), 98 VCCIO2 (power)
part E pins: 21 GND (power), 25 GND (power), 31 GND (power), 62 GND (power), 69 GND (power), 75 GND (power), 84 GND (power), 100 GND (power)
part A text: BANK 1
part B text: BANK 2

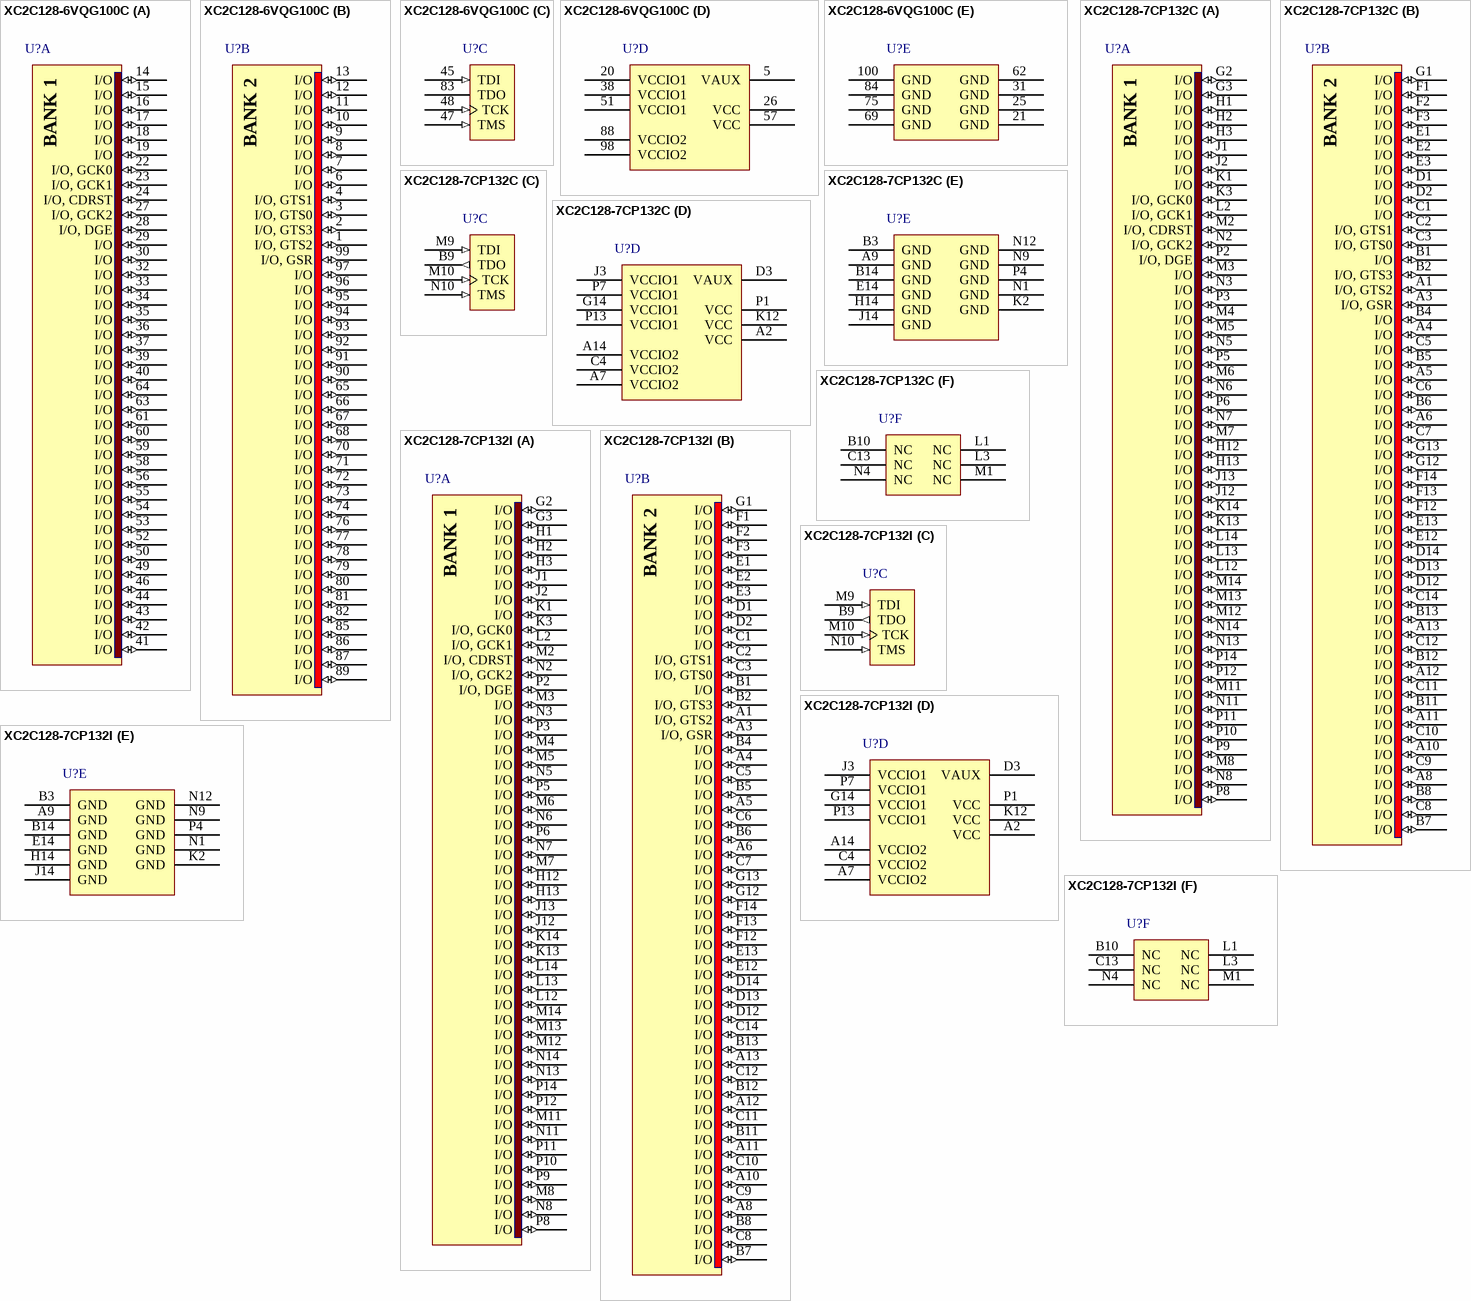
[diagram p15: symbols XC2C128-6VQG100C to XC2C128-7CP132I]

## XC2C128-6VQG100C
designator U?
CoolRunner-II, 1.8V, 128 Macrocell CPLD, 100-Pin VQFP, Pb-Free, Commercial Grade; Published: 4-Mar-2005; LatestRevisionDate: 13-Apr-2006; LatestRevisionNote: IPC-7351 Footprint Added.; DatasheetVersion: ver3.2, Mar-2007; PackageVersion: ver1.2.1, Feb-2007; PackageReference: VQG100; Publisher: Altium Limited; PackageDescription: 100-Pin Very Thin Quad Flat Pack (VQG100) - Pb-Free; Code_JEDEC: MS-026-AED; ComponentLink1Description: Manufacturer Link; ComponentLink1URL: http://www.xilinx.com/products/silicon_solutions/cplds/coolrunner_series/coolrunner_ii_cplds/overview.htm; ComponentLink2Description: Datasheet; ComponentLink2URL: http://direct.xilinx.com/bvdocs/publications/ds093.pdf
footprint VQG100_N (Thin QFP, 100-Leads, Body 14x14mm, Pitch 0.5mm, IPC Medium Density)
footprint VQG100_L (Thin QFP, 100-Leads, Body 14x14mm, Pitch 0.5mm, IPC High Density)
footprint VQG100_M (Thin QFP, 100-Leads, Body 14x14mm, Pitch 0.5mm, IPC Low Density)
3D model XC2C128-VQ100 (100-Pin Very Thin Quad Flat Pack (VQG100) - Pb-Free)
signal-integrity model XC2C128_VQ100 (CoolRunner-II)
part A pins: 14 I/O (io), 15 I/O (io), 16 I/O (io), 17 I/O (io), 18 I/O (io), 19 I/O (io), 22 I/O, GCK0 (io), 23 I/O, GCK1 (io), 24 I/O, CDRST (io), 27 I/O, GCK2 (io), 28 I/O, DGE (io), 29 I/O (io), 30 I/O (io), 32 I/O (io), 33 I/O (io), 34 I/O (io), 35 I/O (io), 36 I/O (io), 37 I/O (io), 39 I/O (io), 40 I/O (io), 41 I/O (io), 42 I/O (io), 43 I/O (io), 44 I/O (io), 46 I/O (io), 49 I/O (io), 50 I/O (io), 52 I/O (io), 53 I/O (io), 54 I/O (io), 55 I/O (io), 56 I/O (io), 58 I/O (io), 59 I/O (io), 60 I/O (io), 61 I/O (io), 63 I/O (io), 64 I/O (io)
part B pins: 1 I/O, GTS2 (io), 2 I/O, GTS3 (io), 3 I/O, GTS0 (io), 4 I/O, GTS1 (io), 6 I/O (io), 7 I/O (io), 8 I/O (io), 9 I/O (io), 10 I/O (io), 11 I/O (io), 12 I/O (io), 13 I/O (io), 65 I/O (io), 66 I/O (io), 67 I/O (io), 68 I/O (io), 70 I/O (io), 71 I/O (io), 72 I/O (io), 73 I/O (io), 74 I/O (io), 76 I/O (io), 77 I/O (io), 78 I/O (io), 79 I/O (io), 80 I/O (io), 81 I/O (io), 82 I/O (io), 85 I/O (io), 86 I/O (io), 87 I/O (io), 89 I/O (io), 90 I/O (io), 91 I/O (io), 92 I/O (io), 93 I/O (io), 94 I/O (io), 95 I/O (io), 96 I/O (io), 97 I/O (io), 99 I/O, GSR (io)
part C pins: 45 TDI (in), 47 TMS (in), 48 TCK (in), 83 TDO
part D pins: 5 VAUX (power), 20 VCCIO1 (power), 26 VCC (power), 38 VCCIO1 (power), 51 VCCIO1 (power), 57 VCC (power), 88 VCCIO2 (power), 98 VCCIO2 (power)
part E pins: 21 GND (power), 25 GND (power), 31 GND (power), 62 GND (power), 69 GND (power), 75 GND (power), 84 GND (power), 100 GND (power)
part A text: BANK 1
part B text: BANK 2

## XC2C128-7CP132C
designator U?
CoolRunner-II, 1.8V, 128 Macrocell CPLD, 132-Ball CSP, Commercial Grade; Published: 23-Sep-2002; LatestRevisionDate: 13-Apr-2006; LatestRevisionNote: IPC-7351 Footprint Added.; DatasheetVersion: ver3.2, Mar-2007; PackageVersion: ver1.2, Jun-2004; PackageReference: CP132; Publisher: Altium Limited; PackageDescription: 132-Ball Chip Scale Ball Grid Array 0.5 mm Pitch (CP132); ComponentLink1Description: Manufacturer Link; ComponentLink1URL: http://www.xilinx.com/products/silicon_solutions/cplds/coolrunner_series/coolrunner_ii_cplds/overview.htm; ComponentLink2Description: Datasheet; ComponentLink2URL: http://direct.xilinx.com/bvdocs/publications/ds093.pdf
footprint CP132 (BGA, 132-Leads, Body 8x8mm, Pitch 0.5mm)
3D model XC2C128-CP132 (132-Ball Chip Scale Ball Grid Array 0.5 mm Pitch (CP132))
signal-integrity model XC2C128_CP132 (CoolRunner-II)
part A pins: G2 I/O (io), G3 I/O (io), H1 I/O (io), H2 I/O (io), H3 I/O (io), H12 I/O (io), H13 I/O (io), J1 I/O (io), J2 I/O (io), J12 I/O (io), J13 I/O (io), K1 I/O (io), K3 I/O, GCK0 (io), K13 I/O (io), K14 I/O (io), L2 I/O, GCK1 (io), L12 I/O (io), L13 I/O (io), L14 I/O (io), M2 I/O, CDRST (io), M3 I/O (io), M4 I/O (io), M5 I/O (io), M6 I/O (io), M7 I/O (io), M8 I/O (io), M11 I/O (io), M12 I/O (io), M13 I/O (io), M14 I/O (io), N2 I/O, GCK2 (io), N3 I/O (io), N5 I/O (io), N6 I/O (io), N7 I/O (io), N8 I/O (io), N11 I/O (io), N13 I/O (io), N14 I/O (io), P2 I/O, DGE (io), P3 I/O (io), P5 I/O (io), P6 I/O (io), P8 I/O (io), P9 I/O (io), P10 I/O (io), P11 I/O (io), P12 I/O (io), P14 I/O (io)
part B pins: A1 I/O, GTS2 (io), A3 I/O, GSR (io), A4 I/O (io), A5 I/O (io), A6 I/O (io), A8 I/O (io), A10 I/O (io), A11 I/O (io), A12 I/O (io), A13 I/O (io), B1 I/O (io), B2 I/O, GTS3 (io), B4 I/O (io), B5 I/O (io), B6 I/O (io), B7 I/O (io), B8 I/O (io), B11 I/O (io), B12 I/O (io), B13 I/O (io), C1 I/O (io), C2 I/O, GTS1 (io), C3 I/O, GTS0 (io), C5 I/O (io), C6 I/O (io), C7 I/O (io), C8 I/O (io), C9 I/O (io), C10 I/O (io), C11 I/O (io), C12 I/O (io), C14 I/O (io), D1 I/O (io), D2 I/O (io), D12 I/O (io), D13 I/O (io), D14 I/O (io), E1 I/O (io), E2 I/O (io), E3 I/O (io), E12 I/O (io), E13 I/O (io), F1 I/O (io), F2 I/O (io), F3 I/O (io), F12 I/O (io), F13 I/O (io), F14 I/O (io), G1 I/O (io), G12 I/O (io), G13 I/O (io)
part C pins: B9 TDO (out), M9 TDI (in), M10 TCK (in), N10 TMS (in)
part D pins: A2 VCC (power), A7 VCCIO2 (power), A14 VCCIO2 (power), C4 VCCIO2 (power), D3 VAUX (power), G14 VCCIO1 (power), J3 VCCIO1 (power), K12 VCC (power), P1 VCC (power), P7 VCCIO1 (power), P13 VCCIO1 (power)
part E pins: A9 GND (power), B3 GND (power), B14 GND (power), E14 GND (power), H14 GND (power), J14 GND (power), K2 GND (power), N1 GND (power), N9 GND (power), N12 GND (power), P4 GND (power)
part F pins: B10 NC, C13 NC, L1 NC, L3 NC, M1 NC, N4 NC
part A text: BANK 1
part B text: BANK 2

## XC2C128-7CP132I
designator U?
CoolRunner-II, 1.8V, 128 Macrocell CPLD, 132-Ball CSP, Industrial Grade; Published: 23-Sep-2002; LatestRevisionDate: 13-Apr-2006; LatestRevisionNote: IPC-7351 Footprint Added.; DatasheetVersion: ver3.2, Mar-2007; PackageVersion: ver1.2, Jun-2004; PackageReference: CP132; Publisher: Altium Limited; PackageDescription: 132-Ball Chip Scale Ball Grid Array 0.5 mm Pitch (CP132); ComponentLink1Description: Manufacturer Link; ComponentLink1URL: http://www.xilinx.com/products/silicon_solutions/cplds/coolrunner_series/coolrunner_ii_cplds/overview.htm; ComponentLink2Description: Datasheet; ComponentLink2URL: http://direct.xilinx.com/bvdocs/publications/ds093.pdf
footprint CP132 (BGA, 132-Leads, Body 8x8mm, Pitch 0.5mm)
3D model XC2C128-CP132 (132-Ball Chip Scale Ball Grid Array 0.5 mm Pitch (CP132))
signal-integrity model XC2C128_CP132 (CoolRunner-II)
part A pins: G2 I/O (io), G3 I/O (io), H1 I/O (io), H2 I/O (io), H3 I/O (io), H12 I/O (io), H13 I/O (io), J1 I/O (io), J2 I/O (io), J12 I/O (io), J13 I/O (io), K1 I/O (io), K3 I/O, GCK0 (io), K13 I/O (io), K14 I/O (io), L2 I/O, GCK1 (io), L12 I/O (io), L13 I/O (io), L14 I/O (io), M2 I/O, CDRST (io), M3 I/O (io), M4 I/O (io), M5 I/O (io), M6 I/O (io), M7 I/O (io), M8 I/O (io), M11 I/O (io), M12 I/O (io), M13 I/O (io), M14 I/O (io), N2 I/O, GCK2 (io), N3 I/O (io), N5 I/O (io), N6 I/O (io), N7 I/O (io), N8 I/O (io), N11 I/O (io), N13 I/O (io), N14 I/O (io), P2 I/O, DGE (io), P3 I/O (io), P5 I/O (io), P6 I/O (io), P8 I/O (io), P9 I/O (io), P10 I/O (io), P11 I/O (io), P12 I/O (io), P14 I/O (io)
part B pins: A1 I/O, GTS2 (io), A3 I/O, GSR (io), A4 I/O (io), A5 I/O (io), A6 I/O (io), A8 I/O (io), A10 I/O (io), A11 I/O (io), A12 I/O (io), A13 I/O (io), B1 I/O (io), B2 I/O, GTS3 (io), B4 I/O (io), B5 I/O (io), B6 I/O (io), B7 I/O (io), B8 I/O (io), B11 I/O (io), B12 I/O (io), B13 I/O (io), C1 I/O (io), C2 I/O, GTS1 (io), C3 I/O, GTS0 (io), C5 I/O (io), C6 I/O (io), C7 I/O (io), C8 I/O (io), C9 I/O (io), C10 I/O (io), C11 I/O (io), C12 I/O (io), C14 I/O (io), D1 I/O (io), D2 I/O (io), D12 I/O (io), D13 I/O (io), D14 I/O (io), E1 I/O (io), E2 I/O (io), E3 I/O (io), E12 I/O (io), E13 I/O (io), F1 I/O (io), F2 I/O (io), F3 I/O (io), F12 I/O (io), F13 I/O (io), F14 I/O (io), G1 I/O (io), G12 I/O (io), G13 I/O (io)
part C pins: B9 TDO (out), M9 TDI (in), M10 TCK (in), N10 TMS (in)
part D pins: A2 VCC (power), A7 VCCIO2 (power), A14 VCCIO2 (power), C4 VCCIO2 (power), D3 VAUX (power), G14 VCCIO1 (power), J3 VCCIO1 (power), K12 VCC (power), P1 VCC (power), P7 VCCIO1 (power), P13 VCCIO1 (power)
part E pins: A9 GND (power), B3 GND (power), B14 GND (power), E14 GND (power), H14 GND (power), J14 GND (power), K2 GND (power), N1 GND (power), N9 GND (power), N12 GND (power), P4 GND (power)
part F pins: B10 NC, C13 NC, L1 NC, L3 NC, M1 NC, N4 NC
part A text: BANK 1
part B text: BANK 2

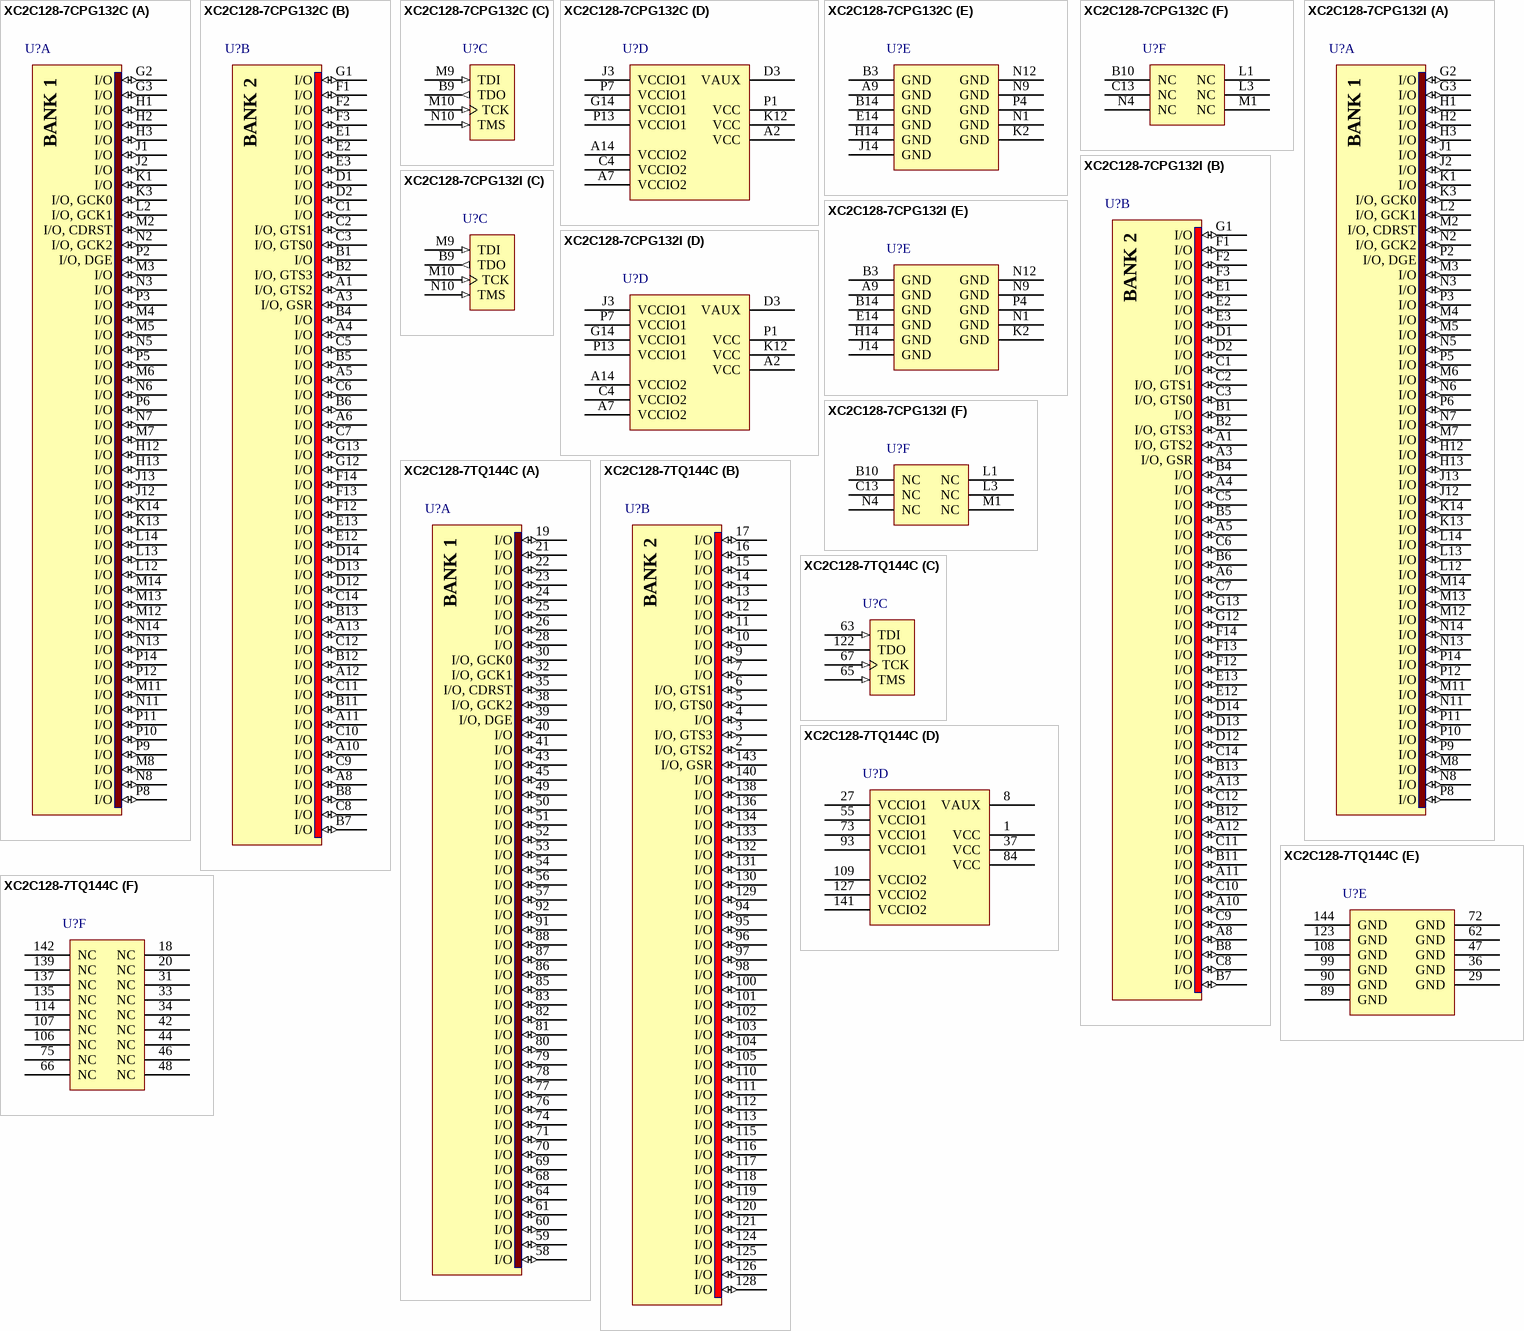
[diagram p16: symbols XC2C128-7CPG132C to XC2C128-7TQ144C]

## XC2C128-7CPG132C
designator U?
CoolRunner-II, 1.8V, 128 Macrocell CPLD, 132-Ball CSP, Pb-Free, Commercial Grade; Published: 4-Mar-2005; LatestRevisionDate: 13-Apr-2006; LatestRevisionNote: IPC-7351 Footprint Added.; DatasheetVersion: ver3.2, Mar-2007; PackageVersion: ver1.2, Jun-2004; PackageReference: CPG132; Publisher: Altium Limited; PackageDescription: 132-Ball Chip Scale Ball Grid Array 0.5 mm Pitch (CPG132) - Pb-Free; ComponentLink1Description: Manufacturer Link; ComponentLink1URL: http://www.xilinx.com/products/silicon_solutions/cplds/coolrunner_series/coolrunner_ii_cplds/overview.htm; ComponentLink2Description: Datasheet; ComponentLink2URL: http://direct.xilinx.com/bvdocs/publications/ds093.pdf
footprint CPG132 (BGA, 132-Leads, Body 8x8mm, Pitch 0.5mm)
3D model XC2C128-CP132 (132-Ball Chip Scale Ball Grid Array 0.5 mm Pitch (CPG132) - Pb-Free)
signal-integrity model XC2C128_CP132 (CoolRunner-II)
part A pins: G2 I/O (io), G3 I/O (io), H1 I/O (io), H2 I/O (io), H3 I/O (io), H12 I/O (io), H13 I/O (io), J1 I/O (io), J2 I/O (io), J12 I/O (io), J13 I/O (io), K1 I/O (io), K3 I/O, GCK0 (io), K13 I/O (io), K14 I/O (io), L2 I/O, GCK1 (io), L12 I/O (io), L13 I/O (io), L14 I/O (io), M2 I/O, CDRST (io), M3 I/O (io), M4 I/O (io), M5 I/O (io), M6 I/O (io), M7 I/O (io), M8 I/O (io), M11 I/O (io), M12 I/O (io), M13 I/O (io), M14 I/O (io), N2 I/O, GCK2 (io), N3 I/O (io), N5 I/O (io), N6 I/O (io), N7 I/O (io), N8 I/O (io), N11 I/O (io), N13 I/O (io), N14 I/O (io), P2 I/O, DGE (io), P3 I/O (io), P5 I/O (io), P6 I/O (io), P8 I/O (io), P9 I/O (io), P10 I/O (io), P11 I/O (io), P12 I/O (io), P14 I/O (io)
part B pins: A1 I/O, GTS2 (io), A3 I/O, GSR (io), A4 I/O (io), A5 I/O (io), A6 I/O (io), A8 I/O (io), A10 I/O (io), A11 I/O (io), A12 I/O (io), A13 I/O (io), B1 I/O (io), B2 I/O, GTS3 (io), B4 I/O (io), B5 I/O (io), B6 I/O (io), B7 I/O (io), B8 I/O (io), B11 I/O (io), B12 I/O (io), B13 I/O (io), C1 I/O (io), C2 I/O, GTS1 (io), C3 I/O, GTS0 (io), C5 I/O (io), C6 I/O (io), C7 I/O (io), C8 I/O (io), C9 I/O (io), C10 I/O (io), C11 I/O (io), C12 I/O (io), C14 I/O (io), D1 I/O (io), D2 I/O (io), D12 I/O (io), D13 I/O (io), D14 I/O (io), E1 I/O (io), E2 I/O (io), E3 I/O (io), E12 I/O (io), E13 I/O (io), F1 I/O (io), F2 I/O (io), F3 I/O (io), F12 I/O (io), F13 I/O (io), F14 I/O (io), G1 I/O (io), G12 I/O (io), G13 I/O (io)
part C pins: B9 TDO (out), M9 TDI (in), M10 TCK (in), N10 TMS (in)
part D pins: A2 VCC (power), A7 VCCIO2 (power), A14 VCCIO2 (power), C4 VCCIO2 (power), D3 VAUX (power), G14 VCCIO1 (power), J3 VCCIO1 (power), K12 VCC (power), P1 VCC (power), P7 VCCIO1 (power), P13 VCCIO1 (power)
part E pins: A9 GND (power), B3 GND (power), B14 GND (power), E14 GND (power), H14 GND (power), J14 GND (power), K2 GND (power), N1 GND (power), N9 GND (power), N12 GND (power), P4 GND (power)
part F pins: B10 NC, C13 NC, L1 NC, L3 NC, M1 NC, N4 NC
part A text: BANK 1
part B text: BANK 2

## XC2C128-7CPG132I
designator U?
CoolRunner-II, 1.8V, 128 Macrocell CPLD, 132-Ball CSP, Pb-Free, Industrial Grade; Published: 4-Mar-2005; LatestRevisionDate: 13-Apr-2006; LatestRevisionNote: IPC-7351 Footprint Added.; DatasheetVersion: ver3.2, Mar-2007; PackageVersion: ver1.2, Jun-2004; PackageReference: CPG132; Publisher: Altium Limited; PackageDescription: 132-Ball Chip Scale Ball Grid Array 0.5 mm Pitch (CPG132) - Pb-Free; ComponentLink1Description: Manufacturer Link; ComponentLink1URL: http://www.xilinx.com/products/silicon_solutions/cplds/coolrunner_series/coolrunner_ii_cplds/overview.htm; ComponentLink2Description: Datasheet; ComponentLink2URL: http://direct.xilinx.com/bvdocs/publications/ds093.pdf
footprint CPG132 (BGA, 132-Leads, Body 8x8mm, Pitch 0.5mm)
3D model XC2C128-CP132 (132-Ball Chip Scale Ball Grid Array 0.5 mm Pitch (CPG132) - Pb-Free)
signal-integrity model XC2C128_CP132 (CoolRunner-II)
part A pins: G2 I/O (io), G3 I/O (io), H1 I/O (io), H2 I/O (io), H3 I/O (io), H12 I/O (io), H13 I/O (io), J1 I/O (io), J2 I/O (io), J12 I/O (io), J13 I/O (io), K1 I/O (io), K3 I/O, GCK0 (io), K13 I/O (io), K14 I/O (io), L2 I/O, GCK1 (io), L12 I/O (io), L13 I/O (io), L14 I/O (io), M2 I/O, CDRST (io), M3 I/O (io), M4 I/O (io), M5 I/O (io), M6 I/O (io), M7 I/O (io), M8 I/O (io), M11 I/O (io), M12 I/O (io), M13 I/O (io), M14 I/O (io), N2 I/O, GCK2 (io), N3 I/O (io), N5 I/O (io), N6 I/O (io), N7 I/O (io), N8 I/O (io), N11 I/O (io), N13 I/O (io), N14 I/O (io), P2 I/O, DGE (io), P3 I/O (io), P5 I/O (io), P6 I/O (io), P8 I/O (io), P9 I/O (io), P10 I/O (io), P11 I/O (io), P12 I/O (io), P14 I/O (io)
part B pins: A1 I/O, GTS2 (io), A3 I/O, GSR (io), A4 I/O (io), A5 I/O (io), A6 I/O (io), A8 I/O (io), A10 I/O (io), A11 I/O (io), A12 I/O (io), A13 I/O (io), B1 I/O (io), B2 I/O, GTS3 (io), B4 I/O (io), B5 I/O (io), B6 I/O (io), B7 I/O (io), B8 I/O (io), B11 I/O (io), B12 I/O (io), B13 I/O (io), C1 I/O (io), C2 I/O, GTS1 (io), C3 I/O, GTS0 (io), C5 I/O (io), C6 I/O (io), C7 I/O (io), C8 I/O (io), C9 I/O (io), C10 I/O (io), C11 I/O (io), C12 I/O (io), C14 I/O (io), D1 I/O (io), D2 I/O (io), D12 I/O (io), D13 I/O (io), D14 I/O (io), E1 I/O (io), E2 I/O (io), E3 I/O (io), E12 I/O (io), E13 I/O (io), F1 I/O (io), F2 I/O (io), F3 I/O (io), F12 I/O (io), F13 I/O (io), F14 I/O (io), G1 I/O (io), G12 I/O (io), G13 I/O (io)
part C pins: B9 TDO (out), M9 TDI (in), M10 TCK (in), N10 TMS (in)
part D pins: A2 VCC (power), A7 VCCIO2 (power), A14 VCCIO2 (power), C4 VCCIO2 (power), D3 VAUX (power), G14 VCCIO1 (power), J3 VCCIO1 (power), K12 VCC (power), P1 VCC (power), P7 VCCIO1 (power), P13 VCCIO1 (power)
part E pins: A9 GND (power), B3 GND (power), B14 GND (power), E14 GND (power), H14 GND (power), J14 GND (power), K2 GND (power), N1 GND (power), N9 GND (power), N12 GND (power), P4 GND (power)
part F pins: B10 NC, C13 NC, L1 NC, L3 NC, M1 NC, N4 NC
part A text: BANK 1
part B text: BANK 2

## XC2C128-7TQ144C
designator U?
CoolRunner-II, 1.8V, 128 Macrocell CPLD, 144-Pin TQFP, Commercial Grade; Published: 23-Sep-2002; LatestRevisionDate: 13-Apr-2006; LatestRevisionNote: IPC-7351 Footprint Added.; DatasheetVersion: ver3.2, Mar-2007; PackageVersion: ver1.2, Jun-2004; PackageReference: TQ144; Publisher: Altium Limited; PackageDescription: 144-Pin Thin Quad Flat Pack (TQ144); Code_JEDEC: MS-026-BFB; ComponentLink1Description: Manufacturer Link; ComponentLink1URL: http://www.xilinx.com/products/silicon_solutions/cplds/coolrunner_series/coolrunner_ii_cplds/overview.htm; ComponentLink2Description: Datasheet; ComponentLink2URL: http://direct.xilinx.com/bvdocs/publications/ds093.pdf
footprint TQ144_N (Thin QFP, 144-Leads, Body 20x20mm, Pitch 0.5mm, IPC Medium Density)
footprint TQ144_L (Thin QFP, 144-Leads, Body 20x20mm, Pitch 0.5mm, IPC High Density)
footprint TQ144_M (Thin QFP, 144-Leads, Body 20x20mm, Pitch 0.5mm, IPC Low Density)
3D model XC2C128-TQ144 (144-Pin Thin Quad Flat Pack (TQ144))
signal-integrity model XC2C128_TQ144 (CoolRunner-II)
part A pins: 19 I/O (io), 21 I/O (io), 22 I/O (io), 23 I/O (io), 24 I/O (io), 25 I/O (io), 26 I/O (io), 28 I/O (io), 30 I/O, GCK0 (io), 32 I/O, GCK1 (io), 35 I/O, CDRST (io), 38 I/O, GCK2 (io), 39 I/O, DGE (io), 40 I/O (io), 41 I/O (io), 43 I/O (io), 45 I/O (io), 49 I/O (io), 50 I/O (io), 51 I/O (io), 52 I/O (io), 53 I/O (io), 54 I/O (io), 56 I/O (io), 57 I/O (io), 58 I/O (io), 59 I/O (io), 60 I/O (io), 61 I/O (io), 64 I/O (io), 68 I/O (io), 69 I/O (io), 70 I/O (io), 71 I/O (io), 74 I/O (io), 76 I/O (io), 77 I/O (io), 78 I/O (io), 79 I/O (io), 80 I/O (io), 81 I/O (io), 82 I/O (io), 83 I/O (io), 85 I/O (io), 86 I/O (io), 87 I/O (io), 88 I/O (io), 91 I/O (io), 92 I/O (io)
part B pins: 2 I/O, GTS2 (io), 3 I/O, GTS3 (io), 4 I/O (io), 5 I/O, GTS0 (io), 6 I/O, GTS1 (io), 7 I/O (io), 9 I/O (io), 10 I/O (io), 11 I/O (io), 12 I/O (io), 13 I/O (io), 14 I/O (io), 15 I/O (io), 16 I/O (io), 17 I/O (io), 94 I/O (io), 95 I/O (io), 96 I/O (io), 97 I/O (io), 98 I/O (io), 100 I/O (io), 101 I/O (io), 102 I/O (io), 103 I/O (io), 104 I/O (io), 105 I/O (io), 110 I/O (io), 111 I/O (io), 112 I/O (io), 113 I/O (io), 115 I/O (io), 116 I/O (io), 117 I/O (io), 118 I/O (io), 119 I/O (io), 120 I/O (io), 121 I/O (io), 124 I/O (io), 125 I/O (io), 126 I/O (io), 128 I/O (io), 129 I/O (io), 130 I/O (io), 131 I/O (io), 132 I/O (io), 133 I/O (io), 134 I/O (io), 136 I/O (io), 138 I/O (io), 140 I/O (io), 143 I/O, GSR (io)
part C pins: 63 TDI (in), 65 TMS (in), 67 TCK (in), 122 TDO
part D pins: 1 VCC (power), 8 VAUX (power), 27 VCCIO1 (power), 37 VCC (power), 55 VCCIO1 (power), 73 VCCIO1 (power), 84 VCC (power), 93 VCCIO1 (power), 109 VCCIO2 (power), 127 VCCIO2 (power), 141 VCCIO2 (power)
part E pins: 29 GND (power), 36 GND (power), 47 GND (power), 62 GND (power), 72 GND (power), 89 GND (power), 90 GND (power), 99 GND (power), 108 GND (power), 123 GND (power), 144 GND (power)
part F pins: 18 NC, 20 NC, 31 NC, 33 NC, 34 NC, 42 NC, 44 NC, 46 NC, 48 NC, 66 NC, 75 NC, 106 NC, 107 NC, 114 NC, 135 NC, 137 NC, 139 NC, 142 NC
part A text: BANK 1
part B text: BANK 2

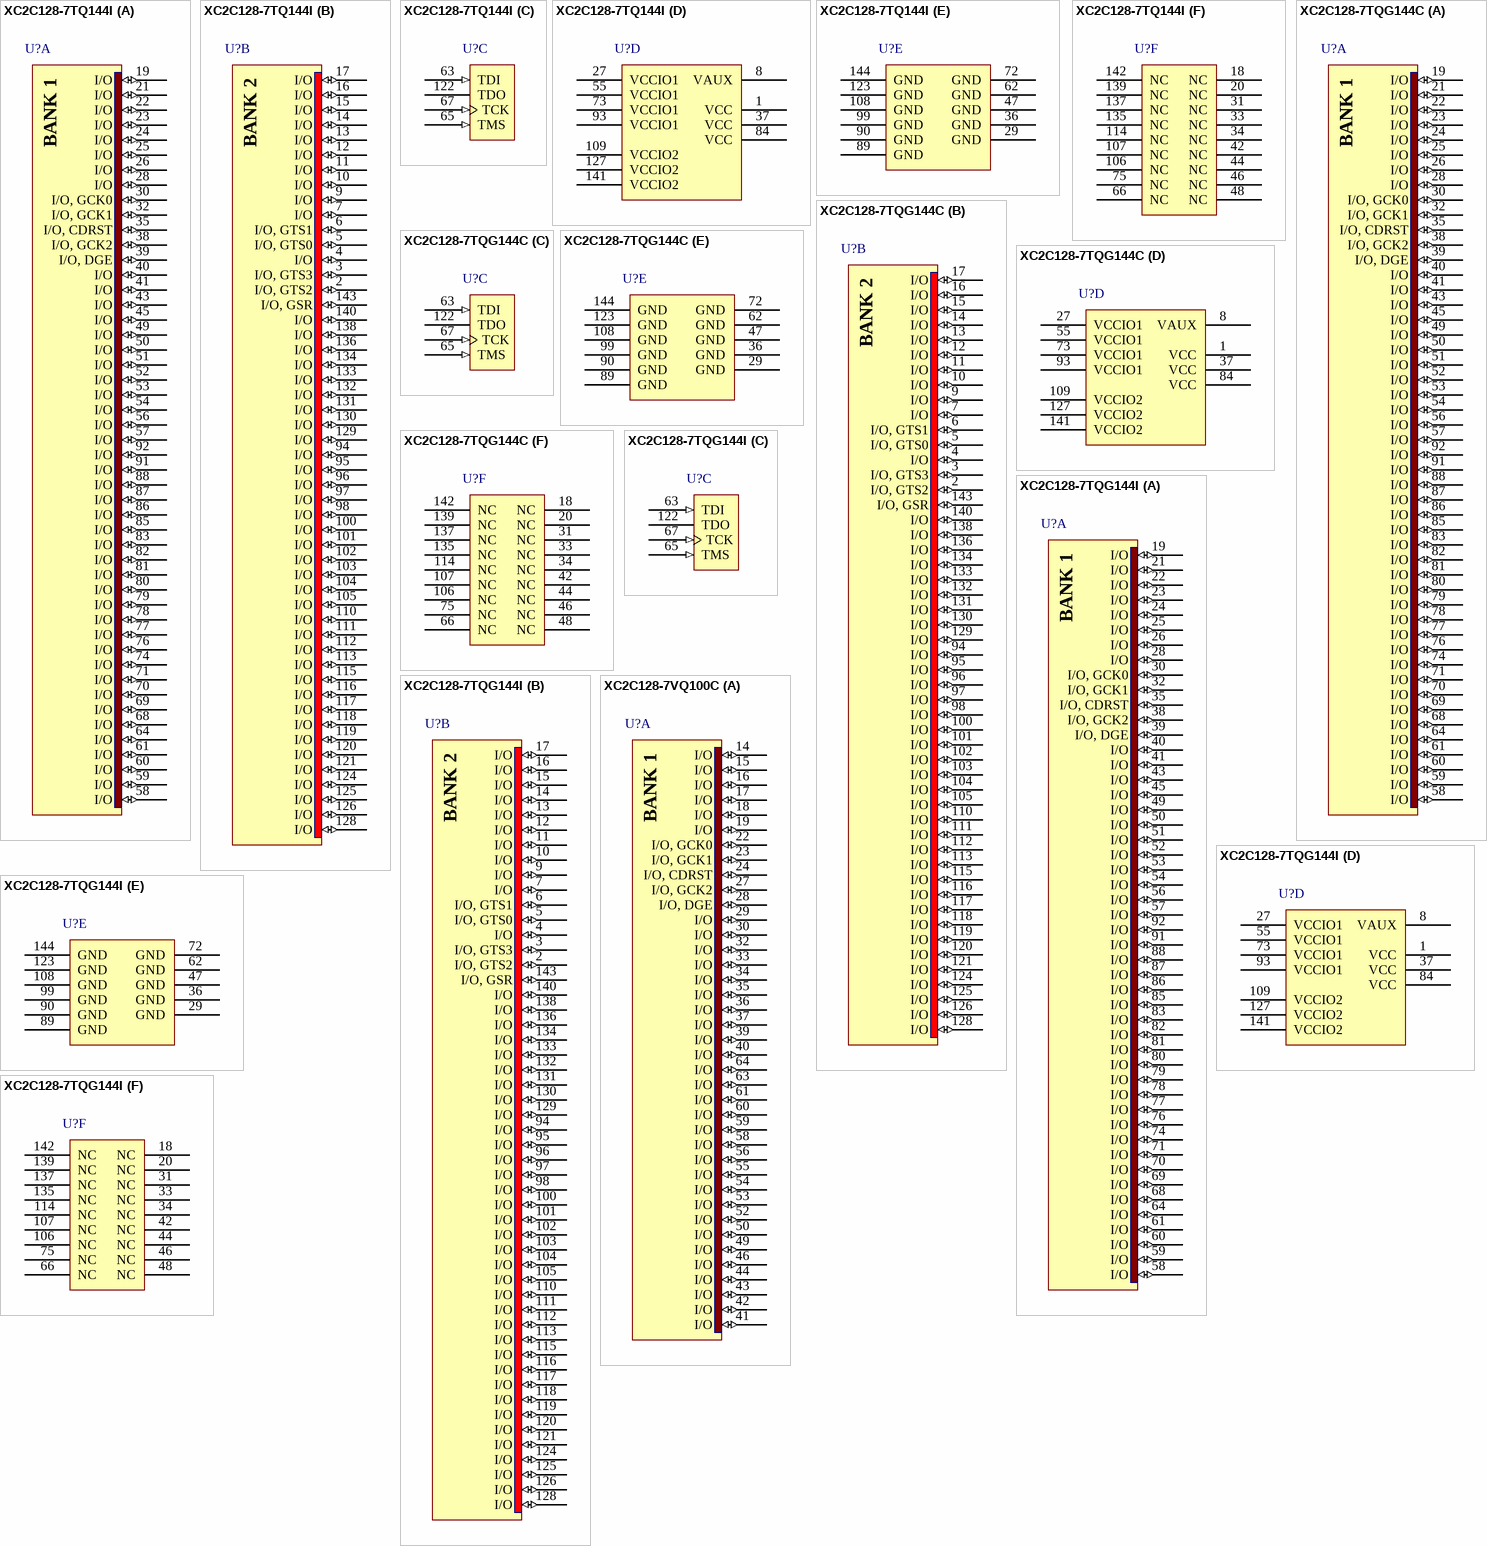
[diagram p17: symbols XC2C128-7TQ144I to XC2C128-7VQ100C]